# Altium integrated library Xilinx XC5200.IntLib: 211 symbols (part 2 of 19)
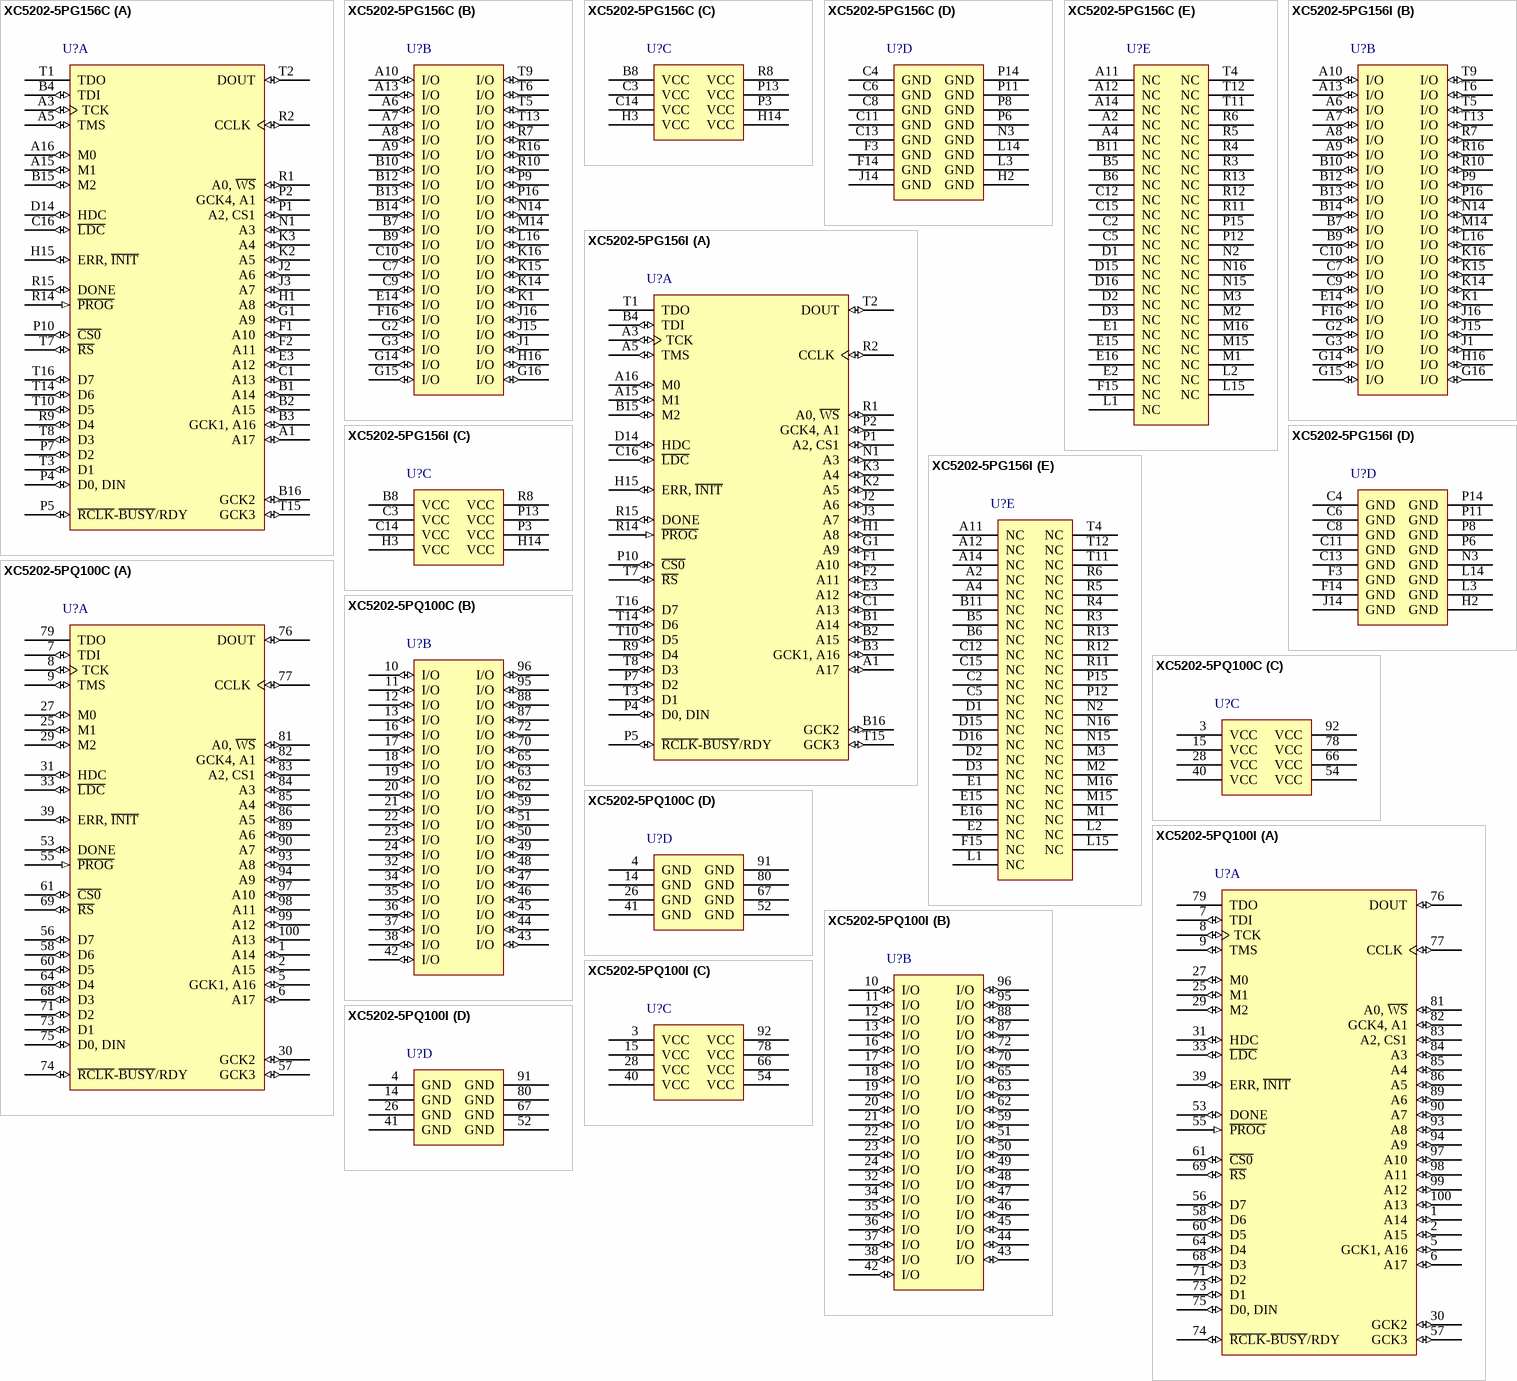
[diagram p64: symbols XC5202-5PG156C to XC5202-5PQ100I]

## XC5202-5PG156I
designator U?
XC5200 Series FPGA, 84 User I/Os, 156-Pin PGA, Industrial Grade; Published: 17-Nov-2009; DatasheetVersion: ver5.2, Nov-1998; PackageVersion: ver1.1, Apr-2001; PackageReference: PG156; Publisher: Altium Limited; PackageDescription: 156-Pin Ceramic Pin Grid Array (PG156); Code_JEDEC: MO-067-AH; ComponentLink1Description: XC5200 Datasheet; ComponentLink1URL: http://www.xilinx.com/support/documentation/data_sheets/5200.pdf; ComponentLink2Description: Pinout Specification; ComponentLink2URL: http://www.xilinx.com/support/documentation/data_sheets/5200.pdf; ComponentLink3Description: PG156 Package Drawing; ComponentLink3URL: http://www.xilinx.com/support/documentation/package_specs/pg156.pdf; ComponentLink4Description: XC5200 Documents; ComponentLink4URL: http://www.xilinx.com/support/documentation/xc5200.htm; ComponentLink5Description: Xilinx.com Home; ComponentLink5URL: http://www.xilinx.com
footprint PG156 (PGA, 156-Leads, Body 42x42mm, Pitch 2.54mm)
signal-integrity model XC5202_PG156 (XC5200)
part A pins: A1 A17 (io) "I/O (A17)", A3 TCK (io) "I/O (TCK)", A5 TMS (io) "I/O (TMS)", A15 M1 (io) "M1 (I/O)", A16 M0 (io) "M0 (I/O)", B1 A14 (io) "I/O (A14)", B2 A15 (io) "I/O (A15)", B3 GCK1, A16 (io) "GCK1 (A16, I/O)", B4 TDI (io) "I/O (TDI)", B15 M2 (io) "M2 (I/O)", B16 GCK2 (io) "GCK2 (I/O)", C1 A13 (io) "I/O (A13)", C16 ~{LDC} (io) "I/O (LDC)", D14 HDC (io) "I/O (HDC)", E3 A12 (io) "I/O (A12)", F1 A10 (io) "I/O (A10)", F2 A11 (io) "I/O (A11)", G1 A9 (io) "I/O (A9)", H1 A8 (io) "I/O (A8)", H15 ERR, ~{INIT} (io) "I/O (ERR, INIT)", J2 A6 (io) "I/O (A6)", J3 A7 (io) "I/O (A7)", K2 A5 (io) "I/O (A5)", K3 A4 (io) "I/O (A4)", N1 A3 (io) "I/O (A3)", P1 A2, CS1 (io) "I/O (A2, CS1)", P2 GCK4, A1 (io) "GCK4 (A1, I/O)", P4 D0, DIN (io) "I/O (D0, DIN)", P5 ~{RCLK}-~{BUSY}/RDY (io) "I/O (RCLK-BUSY/RDY)", P7 D2 (io) "I/O (D2)", P10 ~{CS0} (io) "I/O (CS0)", R1 A0, ~{WS} (io) "I/O (A0, WS)", R2 CCLK (io), R9 D4 (io) "I/O (D4)", R14 ~{PROG} (in), R15 DONE (io), T1 TDO (hiz) "I/O (TDO)", T2 DOUT (io) "I/O (DOUT)", T3 D1 (io) "I/O (D1)", T7 ~{RS} (io) "I/O (RS)", T8 D3 (io) "I/O (D3)", T10 D5 (io) "I/O (D5)", T14 D6 (io) "I/O (D6)", T15 GCK3 (io) "GCK3 (I/O)", T16 D7 (io) "I/O (D7)"
part B pins: A6 I/O (io), A7 I/O (io), A8 I/O (io), A9 I/O (io), A10 I/O (io), A13 I/O (io), B7 I/O (io), B9 I/O (io), B10 I/O (io), B12 I/O (io), B13 I/O (io), B14 I/O (io), C7 I/O (io), C9 I/O (io), C10 I/O (io), E14 I/O (io), F16 I/O (io), G2 I/O (io), G3 I/O (io), G14 I/O (io), G15 I/O (io), G16 I/O (io), H16 I/O (io), J1 I/O (io), J15 I/O (io), J16 I/O (io), K1 I/O (io), K14 I/O (io), K15 I/O (io), K16 I/O (io), L16 I/O (io), M14 I/O (io), N14 I/O (io), P9 I/O (io), P16 I/O (io), R7 I/O (io), R10 I/O (io), R16 I/O (io), T5 I/O (io), T6 I/O (io), T9 I/O (io), T13 I/O (io)
part C pins: B8 VCC (power), C3 VCC (power), C14 VCC (power), H3 VCC (power), H14 VCC (power), P3 VCC (power), P13 VCC (power), R8 VCC (power)
part D pins: C4 GND (power), C6 GND (power), C8 GND (power), C11 GND (power), C13 GND (power), F3 GND (power), F14 GND (power), H2 GND (power), J14 GND (power), L3 GND (power), L14 GND (power), N3 GND (power), P6 GND (power), P8 GND (power), P11 GND (power), P14 GND (power)
part E pins: A2 NC, A4 NC, A11 NC, A12 NC, A14 NC, B5 NC, B6 NC, B11 NC, C2 NC, C5 NC, C12 NC, C15 NC, D1 NC, D2 NC, D3 NC, D15 NC, D16 NC, E1 NC, E2 NC, E15 NC, E16 NC, F15 NC, L1 NC, L2 NC, L15 NC, M1 NC, M2 NC, M3 NC, M15 NC, M16 NC, N2 NC, N15 NC, N16 NC, P12 NC, P15 NC, R3 NC, R4 NC, R5 NC, R6 NC, R11 NC, R12 NC, R13 NC, T4 NC, T11 NC, T12 NC

## XC5202-5PQ100C
designator U?
XC5200 Series FPGA, 81 User I/Os, 100-Pin PQFP, Commercial Grade; Published: 17-Nov-2009; DatasheetVersion: ver5.2, Nov-1998; PackageVersion: ver1.2, Oct-2002; PackageReference: PQ100; Publisher: Altium Limited; PackageDescription: 100-Pin Plastic Quad Flat Pack (PQ100); Supplier 1: Digi-Key; Supplier Part Number 1: XC5202-5PQ100C-ND; Code_IPC: QFP65P1720X2320-100; ComponentLink1Description: XC5200 Datasheet; ComponentLink1URL: http://www.xilinx.com/support/documentation/data_sheets/5200.pdf; ComponentLink2Description: Pinout Specification; ComponentLink2URL: http://www.xilinx.com/support/documentation/data_sheets/5200.pdf; ComponentLink3Description: Discontinuation Notice; ComponentLink3URL: http://www.xilinx.com/support/documentation/customer_notices/xcn09001.pdf; ComponentLink4Description: PQ100 Package Drawing; ComponentLink4URL: http://www.xilinx.com/support/documentation/package_specs/pq100.pdf; ComponentLink5Description: XC5200 Documents; ComponentLink5URL: http://www.xilinx.com/support/documentation/xc5200.htm; ComponentLink6Description: Xilinx.com Home; ComponentLink6URL: http://www.xilinx.com
footprint PQ100_N (QFP, 100-Leads, Body 20x14mm, Pitch 0.65mm, IPC Medium Density)
footprint PQ100_L (QFP, 100-Leads, Body 20x14mm, Pitch 0.65mm, IPC High Density)
footprint PQ100_M (QFP, 100-Leads, Body 20x14mm, Pitch 0.65mm, IPC Low Density)
signal-integrity model XC5202_PQ100 (XC5200)
part A pins: 1 A14 (io) "I/O (A14)", 2 A15 (io) "I/O (A15)", 5 GCK1, A16 (io) "GCK1 (A16, I/O)", 6 A17 (io) "I/O (A17)", 7 TDI (io) "I/O (TDI)", 8 TCK (io) "I/O (TCK)", 9 TMS (io) "I/O (TMS)", 25 M1 (io) "M1 (I/O)", 27 M0 (io) "M0 (I/O)", 29 M2 (io) "M2 (I/O)", 30 GCK2 (io) "GCK2 (I/O)", 31 HDC (io) "I/O (HDC)", 33 ~{LDC} (io) "I/O (LDC)", 39 ERR, ~{INIT} (io) "I/O (ERR, INIT)", 53 DONE (io), 55 ~{PROG} (in), 56 D7 (io) "I/O (D7)", 57 GCK3 (io) "GCK3 (I/O)", 58 D6 (io) "I/O (D6)", 60 D5 (io) "I/O (D5)", 61 ~{CS0} (io) "I/O (CS0)", 64 D4 (io) "I/O (D4)", 68 D3 (io) "I/O (D3)", 69 ~{RS} (io) "I/O (RS)", 71 D2 (io) "I/O (D2)", 73 D1 (io) "I/O (D1)", 74 ~{RCLK}-~{BUSY}/RDY (io) "I/O (RCLK-BUSY/RDY)", 75 D0, DIN (io) "I/O (D0, DIN)", 76 DOUT (io) "I/O (DOUT)", 77 CCLK (io), 79 TDO (hiz) "I/O (TDO)", 81 A0, ~{WS} (io) "I/O (A0, WS)", 82 GCK4, A1 (io) "GCK4 (A1, I/O)", 83 A2, CS1 (io) "I/O (A2, CS1)", 84 A3 (io) "I/O (A3)", 85 A4 (io) "I/O (A4)", 86 A5 (io) "I/O (A5)", 89 A6 (io) "I/O (A6)", 90 A7 (io) "I/O (A7)", 93 A8 (io) "I/O (A8)", 94 A9 (io) "I/O (A9)", 97 A10 (io) "I/O (A10)", 98 A11 (io) "I/O (A11)", 99 A12 (io) "I/O (A12)", 100 A13 (io) "I/O (A13)"
part B pins: 10 I/O (io), 11 I/O (io), 12 I/O (io), 13 I/O (io), 16 I/O (io), 17 I/O (io), 18 I/O (io), 19 I/O (io), 20 I/O (io), 21 I/O (io), 22 I/O (io), 23 I/O (io), 24 I/O (io), 32 I/O (io), 34 I/O (io), 35 I/O (io), 36 I/O (io), 37 I/O (io), 38 I/O (io), 42 I/O (io), 43 I/O (io), 44 I/O (io), 45 I/O (io), 46 I/O (io), 47 I/O (io), 48 I/O (io), 49 I/O (io), 50 I/O (io), 51 I/O (io), 59 I/O (io), 62 I/O (io), 63 I/O (io), 65 I/O (io), 70 I/O (io), 72 I/O (io), 87 I/O (io), 88 I/O (io), 95 I/O (io), 96 I/O (io)
part C pins: 3 VCC (power), 15 VCC (power), 28 VCC (power), 40 VCC (power), 54 VCC (power), 66 VCC (power), 78 VCC (power), 92 VCC (power)
part D pins: 4 GND (power), 14 GND (power), 26 GND (power), 41 GND (power), 52 GND (power), 67 GND (power), 80 GND (power), 91 GND (power)

## XC5202-5PQ100I
designator U?
XC5200 Series FPGA, 81 User I/Os, 100-Pin PQFP, Industrial Grade; Published: 17-Nov-2009; DatasheetVersion: ver5.2, Nov-1998; PackageVersion: ver1.2, Oct-2002; PackageReference: PQ100; Publisher: Altium Limited; PackageDescription: 100-Pin Plastic Quad Flat Pack (PQ100); Code_IPC: QFP65P1720X2320-100; ComponentLink1Description: XC5200 Datasheet; ComponentLink1URL: http://www.xilinx.com/support/documentation/data_sheets/5200.pdf; ComponentLink2Description: Pinout Specification; ComponentLink2URL: http://www.xilinx.com/support/documentation/data_sheets/5200.pdf; ComponentLink3Description: PQ100 Package Drawing; ComponentLink3URL: http://www.xilinx.com/support/documentation/package_specs/pq100.pdf; ComponentLink4Description: XC5200 Documents; ComponentLink4URL: http://www.xilinx.com/support/documentation/xc5200.htm; ComponentLink5Description: Xilinx.com Home; ComponentLink5URL: http://www.xilinx.com
footprint PQ100_N (QFP, 100-Leads, Body 20x14mm, Pitch 0.65mm, IPC Medium Density)
footprint PQ100_L (QFP, 100-Leads, Body 20x14mm, Pitch 0.65mm, IPC High Density)
footprint PQ100_M (QFP, 100-Leads, Body 20x14mm, Pitch 0.65mm, IPC Low Density)
signal-integrity model XC5202_PQ100 (XC5200)
part A pins: 1 A14 (io) "I/O (A14)", 2 A15 (io) "I/O (A15)", 5 GCK1, A16 (io) "GCK1 (A16, I/O)", 6 A17 (io) "I/O (A17)", 7 TDI (io) "I/O (TDI)", 8 TCK (io) "I/O (TCK)", 9 TMS (io) "I/O (TMS)", 25 M1 (io) "M1 (I/O)", 27 M0 (io) "M0 (I/O)", 29 M2 (io) "M2 (I/O)", 30 GCK2 (io) "GCK2 (I/O)", 31 HDC (io) "I/O (HDC)", 33 ~{LDC} (io) "I/O (LDC)", 39 ERR, ~{INIT} (io) "I/O (ERR, INIT)", 53 DONE (io), 55 ~{PROG} (in), 56 D7 (io) "I/O (D7)", 57 GCK3 (io) "GCK3 (I/O)", 58 D6 (io) "I/O (D6)", 60 D5 (io) "I/O (D5)", 61 ~{CS0} (io) "I/O (CS0)", 64 D4 (io) "I/O (D4)", 68 D3 (io) "I/O (D3)", 69 ~{RS} (io) "I/O (RS)", 71 D2 (io) "I/O (D2)", 73 D1 (io) "I/O (D1)", 74 ~{RCLK}-~{BUSY}/RDY (io) "I/O (RCLK-BUSY/RDY)", 75 D0, DIN (io) "I/O (D0, DIN)", 76 DOUT (io) "I/O (DOUT)", 77 CCLK (io), 79 TDO (hiz) "I/O (TDO)", 81 A0, ~{WS} (io) "I/O (A0, WS)", 82 GCK4, A1 (io) "GCK4 (A1, I/O)", 83 A2, CS1 (io) "I/O (A2, CS1)", 84 A3 (io) "I/O (A3)", 85 A4 (io) "I/O (A4)", 86 A5 (io) "I/O (A5)", 89 A6 (io) "I/O (A6)", 90 A7 (io) "I/O (A7)", 93 A8 (io) "I/O (A8)", 94 A9 (io) "I/O (A9)", 97 A10 (io) "I/O (A10)", 98 A11 (io) "I/O (A11)", 99 A12 (io) "I/O (A12)", 100 A13 (io) "I/O (A13)"
part B pins: 10 I/O (io), 11 I/O (io), 12 I/O (io), 13 I/O (io), 16 I/O (io), 17 I/O (io), 18 I/O (io), 19 I/O (io), 20 I/O (io), 21 I/O (io), 22 I/O (io), 23 I/O (io), 24 I/O (io), 32 I/O (io), 34 I/O (io), 35 I/O (io), 36 I/O (io), 37 I/O (io), 38 I/O (io), 42 I/O (io), 43 I/O (io), 44 I/O (io), 45 I/O (io), 46 I/O (io), 47 I/O (io), 48 I/O (io), 49 I/O (io), 50 I/O (io), 51 I/O (io), 59 I/O (io), 62 I/O (io), 63 I/O (io), 65 I/O (io), 70 I/O (io), 72 I/O (io), 87 I/O (io), 88 I/O (io), 95 I/O (io), 96 I/O (io)
part C pins: 3 VCC (power), 15 VCC (power), 28 VCC (power), 40 VCC (power), 54 VCC (power), 66 VCC (power), 78 VCC (power), 92 VCC (power)
part D pins: 4 GND (power), 14 GND (power), 26 GND (power), 41 GND (power), 52 GND (power), 67 GND (power), 80 GND (power), 91 GND (power)

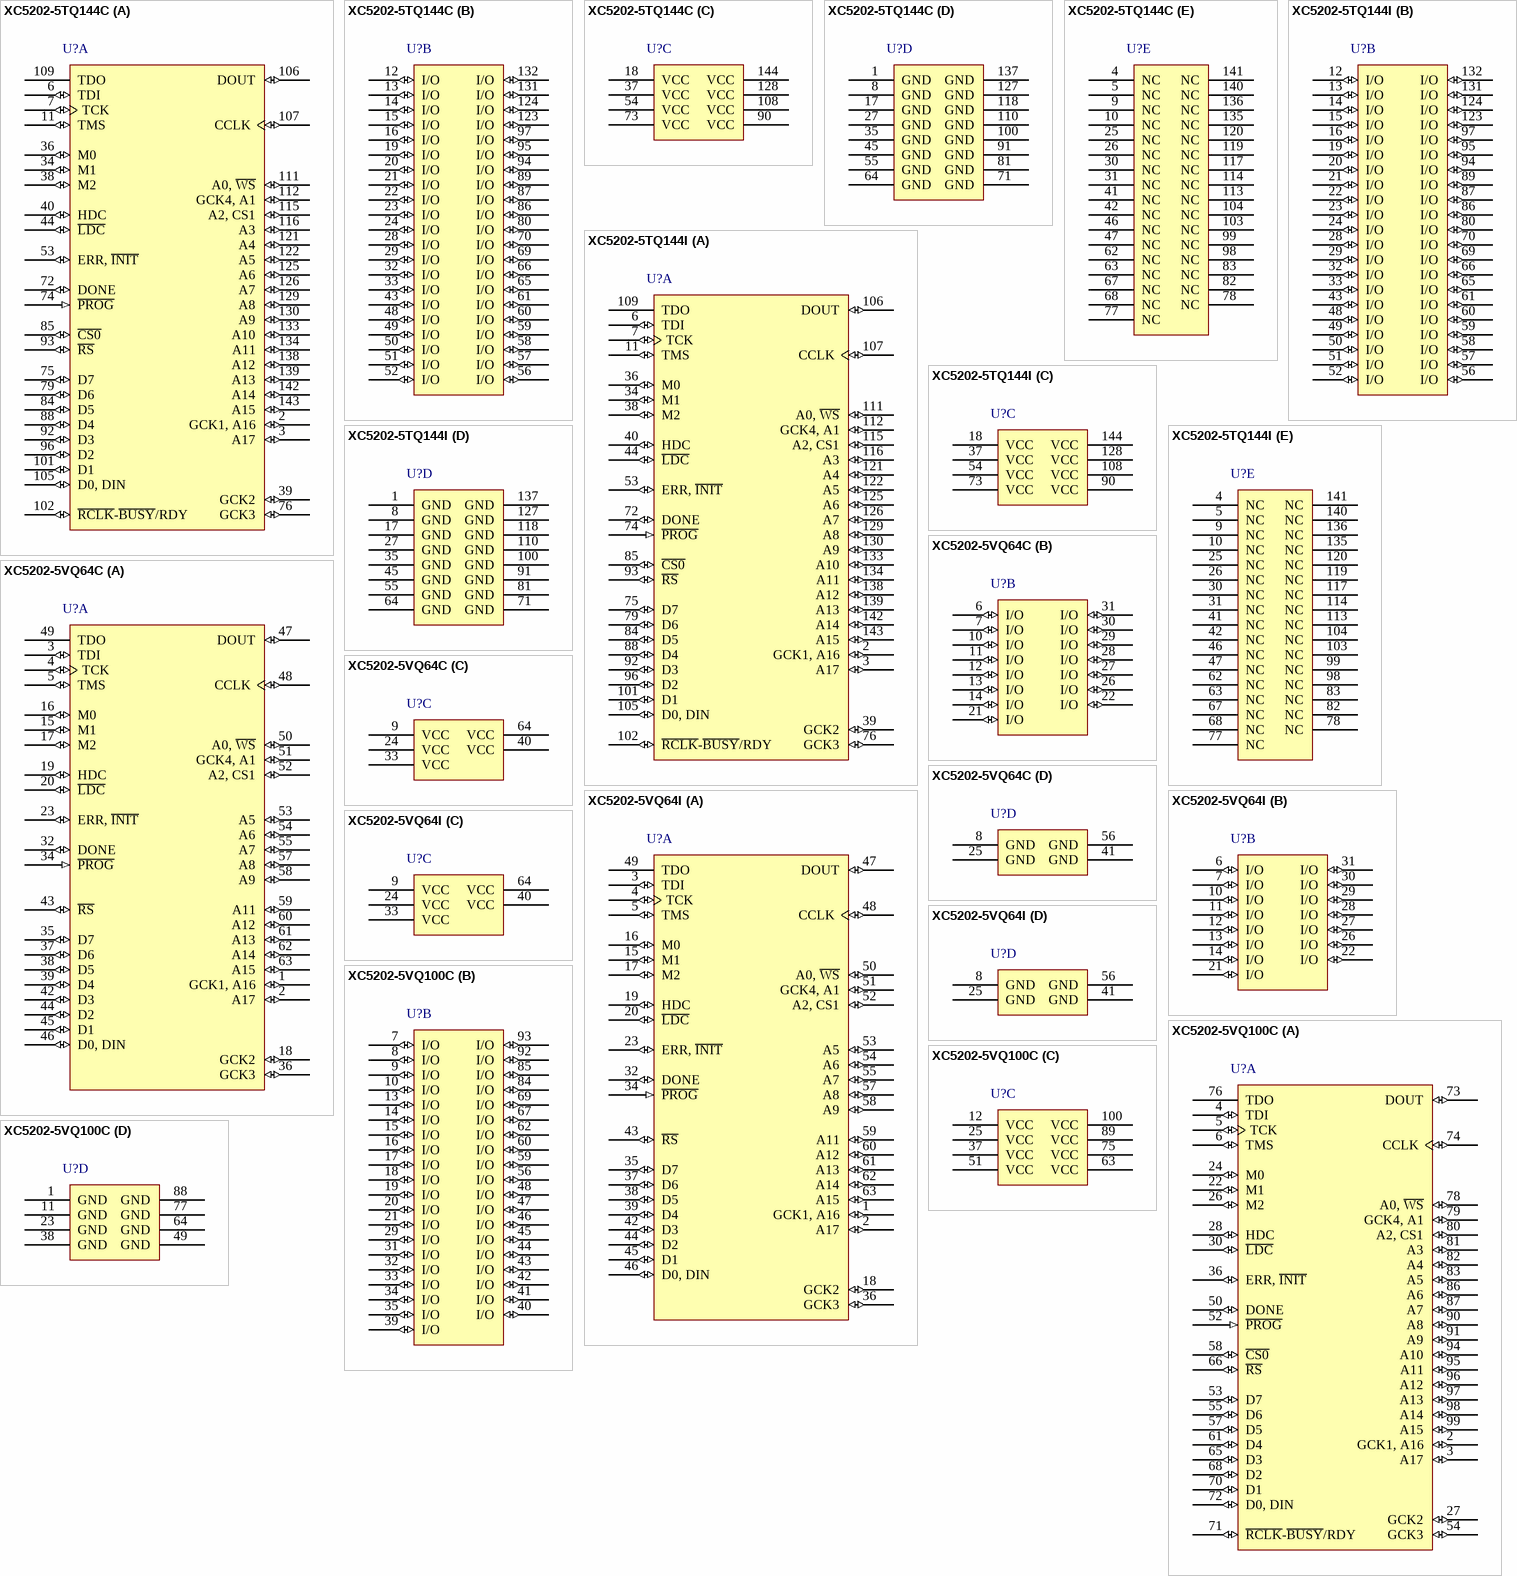
[diagram p4: symbols XC5202-5TQ144C to XC5202-5VQ100C]

## XC5202-5TQ144C
designator U?
XC5200 Series FPGA, 84 User I/Os, 144-Pin TQFP, Commercial Grade; Published: 17-Nov-2009; DatasheetVersion: ver5.2, Nov-1998; PackageVersion: ver1.2, Jun-2004; PackageReference: TQ144; Publisher: Altium Limited; PackageDescription: 144-Pin Thin Quad Flat Pack (TQ144); Code_JEDEC: MS-026-BFB; ComponentLink1Description: XC5200 Datasheet; ComponentLink1URL: http://www.xilinx.com/support/documentation/data_sheets/5200.pdf; ComponentLink2Description: Pinout Specification; ComponentLink2URL: http://www.xilinx.com/support/documentation/data_sheets/5200.pdf; ComponentLink3Description: TQ144 Package Drawing; ComponentLink3URL: http://www.xilinx.com/support/documentation/package_specs/tq144.pdf; ComponentLink4Description: XC5200 Documents; ComponentLink4URL: http://www.xilinx.com/support/documentation/xc5200.htm; ComponentLink5Description: Xilinx.com Home; ComponentLink5URL: http://www.xilinx.com
footprint TQ144_N (Thin QFP, 144-Leads, Body 20x20mm, Pitch 0.5mm, IPC Medium Density)
footprint TQ144_L (Thin QFP, 144-Leads, Body 20x20mm, Pitch 0.5mm, IPC High Density)
footprint TQ144_M (Thin QFP, 144-Leads, Body 20x20mm, Pitch 0.5mm, IPC Low Density)
signal-integrity model XC5202_TQ144 (XC5200)
part A pins: 2 GCK1, A16 (io) "GCK1 (A16, I/O)", 3 A17 (io) "I/O (A17)", 6 TDI (io) "I/O (TDI)", 7 TCK (io) "I/O (TCK)", 11 TMS (io) "I/O (TMS)", 34 M1 (io) "M1 (I/O)", 36 M0 (io) "M0 (I/O)", 38 M2 (io) "M2 (I/O)", 39 GCK2 (io) "GCK2 (I/O)", 40 HDC (io) "I/O (HDC)", 44 ~{LDC} (io) "I/O (LDC)", 53 ERR, ~{INIT} (io) "I/O (ERR, INIT)", 72 DONE (io), 74 ~{PROG} (in), 75 D7 (io) "I/O (D7)", 76 GCK3 (io) "GCK3 (I/O)", 79 D6 (io) "I/O (D6)", 84 D5 (io) "I/O (D5)", 85 ~{CS0} (io) "I/O (CS0)", 88 D4 (io) "I/O (D4)", 92 D3 (io) "I/O (D3)", 93 ~{RS} (io) "I/O (RS)", 96 D2 (io) "I/O (D2)", 101 D1 (io) "I/O (D1)", 102 ~{RCLK}-~{BUSY}/RDY (io) "I/O (RCLK-BUSY/RDY)", 105 D0, DIN (io) "I/O (D0, DIN)", 106 DOUT (io) "I/O (DOUT)", 107 CCLK (io), 109 TDO (hiz) "I/O (TDO)", 111 A0, ~{WS} (io) "I/O (A0, WS)", 112 GCK4, A1 (io) "GCK4 (A1, I/O)", 115 A2, CS1 (io) "I/O (A2, CS1)", 116 A3 (io) "I/O (A3)", 121 A4 (io) "I/O (A4)", 122 A5 (io) "I/O (A5)", 125 A6 (io) "I/O (A6)", 126 A7 (io) "I/O (A7)", 129 A8 (io) "I/O (A8)", 130 A9 (io) "I/O (A9)", 133 A10 (io) "I/O (A10)", 134 A11 (io) "I/O (A11)", 138 A12 (io) "I/O (A12)", 139 A13 (io) "I/O (A13)", 142 A14 (io) "I/O (A14)", 143 A15 (io) "I/O (A15)"
part B pins: 12 I/O (io), 13 I/O (io), 14 I/O (io), 15 I/O (io), 16 I/O (io), 19 I/O (io), 20 I/O (io), 21 I/O (io), 22 I/O (io), 23 I/O (io), 24 I/O (io), 28 I/O (io), 29 I/O (io), 32 I/O (io), 33 I/O (io), 43 I/O (io), 48 I/O (io), 49 I/O (io), 50 I/O (io), 51 I/O (io), 52 I/O (io), 56 I/O (io), 57 I/O (io), 58 I/O (io), 59 I/O (io), 60 I/O (io), 61 I/O (io), 65 I/O (io), 66 I/O (io), 69 I/O (io), 70 I/O (io), 80 I/O (io), 86 I/O (io), 87 I/O (io), 89 I/O (io), 94 I/O (io), 95 I/O (io), 97 I/O (io), 123 I/O (io), 124 I/O (io), 131 I/O (io), 132 I/O (io)
part C pins: 18 VCC (power), 37 VCC (power), 54 VCC (power), 73 VCC (power), 90 VCC (power), 108 VCC (power), 128 VCC (power), 144 VCC (power)
part D pins: 1 GND (power), 8 GND (power), 17 GND (power), 27 GND (power), 35 GND (power), 45 GND (power), 55 GND (power), 64 GND (power), 71 GND (power), 81 GND (power), 91 GND (power), 100 GND (power), 110 GND (power), 118 GND (power), 127 GND (power), 137 GND (power)
part E pins: 4 NC, 5 NC, 9 NC, 10 NC, 25 NC, 26 NC, 30 NC, 31 NC, 41 NC, 42 NC, 46 NC, 47 NC, 62 NC, 63 NC, 67 NC, 68 NC, 77 NC, 78 NC, 82 NC, 83 NC, 98 NC, 99 NC, 103 NC, 104 NC, 113 NC, 114 NC, 117 NC, 119 NC, 120 NC, 135 NC, 136 NC, 140 NC, 141 NC

## XC5202-5TQ144I
designator U?
XC5200 Series FPGA, 84 User I/Os, 144-Pin TQFP, Industrial Grade; Published: 17-Nov-2009; DatasheetVersion: ver5.2, Nov-1998; PackageVersion: ver1.2, Jun-2004; PackageReference: TQ144; Publisher: Altium Limited; PackageDescription: 144-Pin Thin Quad Flat Pack (TQ144); Code_JEDEC: MS-026-BFB; ComponentLink1Description: XC5200 Datasheet; ComponentLink1URL: http://www.xilinx.com/support/documentation/data_sheets/5200.pdf; ComponentLink2Description: Pinout Specification; ComponentLink2URL: http://www.xilinx.com/support/documentation/data_sheets/5200.pdf; ComponentLink3Description: TQ144 Package Drawing; ComponentLink3URL: http://www.xilinx.com/support/documentation/package_specs/tq144.pdf; ComponentLink4Description: XC5200 Documents; ComponentLink4URL: http://www.xilinx.com/support/documentation/xc5200.htm; ComponentLink5Description: Xilinx.com Home; ComponentLink5URL: http://www.xilinx.com
footprint TQ144_N (Thin QFP, 144-Leads, Body 20x20mm, Pitch 0.5mm, IPC Medium Density)
footprint TQ144_L (Thin QFP, 144-Leads, Body 20x20mm, Pitch 0.5mm, IPC High Density)
footprint TQ144_M (Thin QFP, 144-Leads, Body 20x20mm, Pitch 0.5mm, IPC Low Density)
signal-integrity model XC5202_TQ144 (XC5200)
part A pins: 2 GCK1, A16 (io) "GCK1 (A16, I/O)", 3 A17 (io) "I/O (A17)", 6 TDI (io) "I/O (TDI)", 7 TCK (io) "I/O (TCK)", 11 TMS (io) "I/O (TMS)", 34 M1 (io) "M1 (I/O)", 36 M0 (io) "M0 (I/O)", 38 M2 (io) "M2 (I/O)", 39 GCK2 (io) "GCK2 (I/O)", 40 HDC (io) "I/O (HDC)", 44 ~{LDC} (io) "I/O (LDC)", 53 ERR, ~{INIT} (io) "I/O (ERR, INIT)", 72 DONE (io), 74 ~{PROG} (in), 75 D7 (io) "I/O (D7)", 76 GCK3 (io) "GCK3 (I/O)", 79 D6 (io) "I/O (D6)", 84 D5 (io) "I/O (D5)", 85 ~{CS0} (io) "I/O (CS0)", 88 D4 (io) "I/O (D4)", 92 D3 (io) "I/O (D3)", 93 ~{RS} (io) "I/O (RS)", 96 D2 (io) "I/O (D2)", 101 D1 (io) "I/O (D1)", 102 ~{RCLK}-~{BUSY}/RDY (io) "I/O (RCLK-BUSY/RDY)", 105 D0, DIN (io) "I/O (D0, DIN)", 106 DOUT (io) "I/O (DOUT)", 107 CCLK (io), 109 TDO (hiz) "I/O (TDO)", 111 A0, ~{WS} (io) "I/O (A0, WS)", 112 GCK4, A1 (io) "GCK4 (A1, I/O)", 115 A2, CS1 (io) "I/O (A2, CS1)", 116 A3 (io) "I/O (A3)", 121 A4 (io) "I/O (A4)", 122 A5 (io) "I/O (A5)", 125 A6 (io) "I/O (A6)", 126 A7 (io) "I/O (A7)", 129 A8 (io) "I/O (A8)", 130 A9 (io) "I/O (A9)", 133 A10 (io) "I/O (A10)", 134 A11 (io) "I/O (A11)", 138 A12 (io) "I/O (A12)", 139 A13 (io) "I/O (A13)", 142 A14 (io) "I/O (A14)", 143 A15 (io) "I/O (A15)"
part B pins: 12 I/O (io), 13 I/O (io), 14 I/O (io), 15 I/O (io), 16 I/O (io), 19 I/O (io), 20 I/O (io), 21 I/O (io), 22 I/O (io), 23 I/O (io), 24 I/O (io), 28 I/O (io), 29 I/O (io), 32 I/O (io), 33 I/O (io), 43 I/O (io), 48 I/O (io), 49 I/O (io), 50 I/O (io), 51 I/O (io), 52 I/O (io), 56 I/O (io), 57 I/O (io), 58 I/O (io), 59 I/O (io), 60 I/O (io), 61 I/O (io), 65 I/O (io), 66 I/O (io), 69 I/O (io), 70 I/O (io), 80 I/O (io), 86 I/O (io), 87 I/O (io), 89 I/O (io), 94 I/O (io), 95 I/O (io), 97 I/O (io), 123 I/O (io), 124 I/O (io), 131 I/O (io), 132 I/O (io)
part C pins: 18 VCC (power), 37 VCC (power), 54 VCC (power), 73 VCC (power), 90 VCC (power), 108 VCC (power), 128 VCC (power), 144 VCC (power)
part D pins: 1 GND (power), 8 GND (power), 17 GND (power), 27 GND (power), 35 GND (power), 45 GND (power), 55 GND (power), 64 GND (power), 71 GND (power), 81 GND (power), 91 GND (power), 100 GND (power), 110 GND (power), 118 GND (power), 127 GND (power), 137 GND (power)
part E pins: 4 NC, 5 NC, 9 NC, 10 NC, 25 NC, 26 NC, 30 NC, 31 NC, 41 NC, 42 NC, 46 NC, 47 NC, 62 NC, 63 NC, 67 NC, 68 NC, 77 NC, 78 NC, 82 NC, 83 NC, 98 NC, 99 NC, 103 NC, 104 NC, 113 NC, 114 NC, 117 NC, 119 NC, 120 NC, 135 NC, 136 NC, 140 NC, 141 NC

## XC5202-5VQ64C
designator U?
XC5200 Series FPGA, 52 User I/Os, 64-Pin VQFP, Commercial Grade; Published: 17-Nov-2009; DatasheetVersion: ver5.2, Nov-1998; PackageVersion: ver1.2, Jun-2004; PackageReference: VQ64; Publisher: Altium Limited; PackageDescription: 64-Pin Very Thin Quad Flat Pack (VQ64); Code_JEDEC: MS-026-ACD; ComponentLink1Description: XC5200 Datasheet; ComponentLink1URL: http://www.xilinx.com/support/documentation/data_sheets/5200.pdf; ComponentLink2Description: Pinout Specification; ComponentLink2URL: http://www.xilinx.com/support/documentation/data_sheets/5200.pdf; ComponentLink3Description: VQ64 Package Drawing; ComponentLink3URL: http://www.xilinx.com/support/documentation/package_specs/vq64.pdf; ComponentLink4Description: XC5200 Documents; ComponentLink4URL: http://www.xilinx.com/support/documentation/xc5200.htm; ComponentLink5Description: Xilinx.com Home; ComponentLink5URL: http://www.xilinx.com
footprint VQ64_N (Thin QFP, 64-Leads, Body 10x10mm, Pitch 0.5mm, IPC Medium Density)
footprint VQ64_L (Thin QFP, 64-Leads, Body 10x10mm, Pitch 0.5mm, IPC High Density)
footprint VQ64_M (Thin QFP, 64-Leads, Body 10x10mm, Pitch 0.5mm, IPC Low Density)
signal-integrity model XC5202_VQ64 (XC5200)
part A pins: 1 GCK1, A16 (io) "GCK1 (A16, I/O)", 2 A17 (io) "I/O (A17)", 3 TDI (io) "I/O (TDI)", 4 TCK (io) "I/O (TCK)", 5 TMS (io) "I/O (TMS)", 15 M1 (io) "M1 (I/O)", 16 M0 (io) "M0 (I/O)", 17 M2 (io) "M2 (I/O)", 18 GCK2 (io) "GCK2 (I/O)", 19 HDC (io) "I/O (HDC)", 20 ~{LDC} (io) "I/O (LDC)", 23 ERR, ~{INIT} (io) "I/O (ERR, INIT)", 32 DONE (io), 34 ~{PROG} (in), 35 D7 (io) "I/O (D7)", 36 GCK3 (io) "GCK3 (I/O)", 37 D6 (io) "I/O (D6)", 38 D5 (io) "I/O (D5)", 39 D4 (io) "I/O (D4)", 42 D3 (io) "I/O (D3)", 43 ~{RS} (io) "I/O (RS)", 44 D2 (io) "I/O (D2)", 45 D1 (io) "I/O (D1)", 46 D0, DIN (io) "I/O (D0, DIN)", 47 DOUT (io) "I/O (DOUT)", 48 CCLK (io), 49 TDO (hiz) "I/O (TDO)", 50 A0, ~{WS} (io) "I/O (A0, WS)", 51 GCK4, A1 (io) "GCK4 (A1, I/O)", 52 A2, CS1 (io) "I/O (A2, CS1)", 53 A5 (io) "I/O (A5)", 54 A6 (io) "I/O (A6)", 55 A7 (io) "I/O (A7)", 57 A8 (io) "I/O (A8)", 58 A9 (io) "I/O (A9)", 59 A11 (io) "I/O (A11)", 60 A12 (io) "I/O (A12)", 61 A13 (io) "I/O (A13)", 62 A14 (io) "I/O (A14)", 63 A15 (io) "I/O (A15)"
part B pins: 6 I/O (io), 7 I/O (io), 10 I/O (io), 11 I/O (io), 12 I/O (io), 13 I/O (io), 14 I/O (io), 21 I/O (io), 22 I/O (io), 26 I/O (io), 27 I/O (io), 28 I/O (io), 29 I/O (io), 30 I/O (io), 31 I/O (io)
part C pins: 9 VCC (power), 24 VCC (power), 33 VCC (power), 40 VCC (power), 64 VCC (power)
part D pins: 8 GND (power), 25 GND (power), 41 GND (power), 56 GND (power)

## XC5202-5VQ64I
designator U?
XC5200 Series FPGA, 52 User I/Os, 64-Pin VQFP, Industrial Grade; Published: 17-Nov-2009; DatasheetVersion: ver5.2, Nov-1998; PackageVersion: ver1.2, Jun-2004; PackageReference: VQ64; Publisher: Altium Limited; PackageDescription: 64-Pin Very Thin Quad Flat Pack (VQ64); Code_JEDEC: MS-026-ACD; ComponentLink1Description: XC5200 Datasheet; ComponentLink1URL: http://www.xilinx.com/support/documentation/data_sheets/5200.pdf; ComponentLink2Description: Pinout Specification; ComponentLink2URL: http://www.xilinx.com/support/documentation/data_sheets/5200.pdf; ComponentLink3Description: VQ64 Package Drawing; ComponentLink3URL: http://www.xilinx.com/support/documentation/package_specs/vq64.pdf; ComponentLink4Description: XC5200 Documents; ComponentLink4URL: http://www.xilinx.com/support/documentation/xc5200.htm; ComponentLink5Description: Xilinx.com Home; ComponentLink5URL: http://www.xilinx.com
footprint VQ64_N (Thin QFP, 64-Leads, Body 10x10mm, Pitch 0.5mm, IPC Medium Density)
footprint VQ64_L (Thin QFP, 64-Leads, Body 10x10mm, Pitch 0.5mm, IPC High Density)
footprint VQ64_M (Thin QFP, 64-Leads, Body 10x10mm, Pitch 0.5mm, IPC Low Density)
signal-integrity model XC5202_VQ64 (XC5200)
part A pins: 1 GCK1, A16 (io) "GCK1 (A16, I/O)", 2 A17 (io) "I/O (A17)", 3 TDI (io) "I/O (TDI)", 4 TCK (io) "I/O (TCK)", 5 TMS (io) "I/O (TMS)", 15 M1 (io) "M1 (I/O)", 16 M0 (io) "M0 (I/O)", 17 M2 (io) "M2 (I/O)", 18 GCK2 (io) "GCK2 (I/O)", 19 HDC (io) "I/O (HDC)", 20 ~{LDC} (io) "I/O (LDC)", 23 ERR, ~{INIT} (io) "I/O (ERR, INIT)", 32 DONE (io), 34 ~{PROG} (in), 35 D7 (io) "I/O (D7)", 36 GCK3 (io) "GCK3 (I/O)", 37 D6 (io) "I/O (D6)", 38 D5 (io) "I/O (D5)", 39 D4 (io) "I/O (D4)", 42 D3 (io) "I/O (D3)", 43 ~{RS} (io) "I/O (RS)", 44 D2 (io) "I/O (D2)", 45 D1 (io) "I/O (D1)", 46 D0, DIN (io) "I/O (D0, DIN)", 47 DOUT (io) "I/O (DOUT)", 48 CCLK (io), 49 TDO (hiz) "I/O (TDO)", 50 A0, ~{WS} (io) "I/O (A0, WS)", 51 GCK4, A1 (io) "GCK4 (A1, I/O)", 52 A2, CS1 (io) "I/O (A2, CS1)", 53 A5 (io) "I/O (A5)", 54 A6 (io) "I/O (A6)", 55 A7 (io) "I/O (A7)", 57 A8 (io) "I/O (A8)", 58 A9 (io) "I/O (A9)", 59 A11 (io) "I/O (A11)", 60 A12 (io) "I/O (A12)", 61 A13 (io) "I/O (A13)", 62 A14 (io) "I/O (A14)", 63 A15 (io) "I/O (A15)"
part B pins: 6 I/O (io), 7 I/O (io), 10 I/O (io), 11 I/O (io), 12 I/O (io), 13 I/O (io), 14 I/O (io), 21 I/O (io), 22 I/O (io), 26 I/O (io), 27 I/O (io), 28 I/O (io), 29 I/O (io), 30 I/O (io), 31 I/O (io)
part C pins: 9 VCC (power), 24 VCC (power), 33 VCC (power), 40 VCC (power), 64 VCC (power)
part D pins: 8 GND (power), 25 GND (power), 41 GND (power), 56 GND (power)

## XC5202-5VQ100C
designator U?
XC5200 Series FPGA, 81 User I/Os, 100-Pin VQFP, Commercial Grade; Published: 17-Nov-2009; DatasheetVersion: ver5.2, Nov-1998; PackageVersion: ver1.2.1, Feb-2007; PackageReference: VQ100; Publisher: Altium Limited; PackageDescription: 100-Pin Very Thin Quad Flat Pack (VQ100); Code_JEDEC: MS-026-AED; ComponentLink1Description: XC5200 Datasheet; ComponentLink1URL: http://www.xilinx.com/support/documentation/data_sheets/5200.pdf; ComponentLink2Description: Pinout Specification; ComponentLink2URL: http://www.xilinx.com/support/documentation/data_sheets/5200.pdf; ComponentLink3Description: Discontinuation Notice; ComponentLink3URL: http://www.xilinx.com/support/documentation/customer_notices/xcn09001.pdf; ComponentLink4Description: VQ100 Package Drawing; ComponentLink4URL: http://www.xilinx.com/support/documentation/package_specs/vq100.pdf; ComponentLink5Description: XC5200 Documents; ComponentLink5URL: http://www.xilinx.com/support/documentation/xc5200.htm; ComponentLink6Description: Xilinx.com Home; ComponentLink6URL: http://www.xilinx.com
footprint VQ100_N (Thin QFP, 100-Leads, Body 14x14mm, Pitch 0.5mm, IPC Medium Density)
footprint VQ100_L (Thin QFP, 100-Leads, Body 14x14mm, Pitch 0.5mm, IPC High Density)
footprint VQ100_M (Thin QFP, 100-Leads, Body 14x14mm, Pitch 0.5mm, IPC Low Density)
signal-integrity model XC5202_VQ100 (XC5200)
part A pins: 2 GCK1, A16 (io) "GCK1 (A16, I/O)", 3 A17 (io) "I/O (A17)", 4 TDI (io) "I/O (TDI)", 5 TCK (io) "I/O (TCK)", 6 TMS (io) "I/O (TMS)", 22 M1 (io) "M1 (I/O)", 24 M0 (io) "M0 (I/O)", 26 M2 (io) "M2 (I/O)", 27 GCK2 (io) "GCK2 (I/O)", 28 HDC (io) "I/O (HDC)", 30 ~{LDC} (io) "I/O (LDC)", 36 ERR, ~{INIT} (io) "I/O (ERR, INIT)", 50 DONE (io), 52 ~{PROG} (in), 53 D7 (io) "I/O (D7)", 54 GCK3 (io) "GCK3 (I/O)", 55 D6 (io) "I/O (D6)", 57 D5 (io) "I/O (D5)", 58 ~{CS0} (io) "I/O (CS0)", 61 D4 (io) "I/O (D4)", 65 D3 (io) "I/O (D3)", 66 ~{RS} (io) "I/O (RS)", 68 D2 (io) "I/O (D2)", 70 D1 (io) "I/O (D1)", 71 ~{RCLK}-~{BUSY}/RDY (io) "I/O (RCLK-BUSY/RDY)", 72 D0, DIN (io) "I/O (D0, DIN)", 73 DOUT (io) "I/O (DOUT)", 74 CCLK (io), 76 TDO (hiz) "I/O (TDO)", 78 A0, ~{WS} (io) "I/O (A0, WS)", 79 GCK4, A1 (io) "GCK4 (A1, I/O)", 80 A2, CS1 (io) "I/O (A2, CS1)", 81 A3 (io) "I/O (A3)", 82 A4 (io) "I/O (A4)", 83 A5 (io) "I/O (A5)", 86 A6 (io) "I/O (A6)", 87 A7 (io) "I/O (A7)", 90 A8 (io) "I/O (A8)", 91 A9 (io) "I/O (A9)", 94 A10 (io) "I/O (A10)", 95 A11 (io) "I/O (A11)", 96 A12 (io) "I/O (A12)", 97 A13 (io) "I/O (A13)", 98 A14 (io) "I/O (A14)", 99 A15 (io) "I/O (A15)"
part B pins: 7 I/O (io), 8 I/O (io), 9 I/O (io), 10 I/O (io), 13 I/O (io), 14 I/O (io), 15 I/O (io), 16 I/O (io), 17 I/O (io), 18 I/O (io), 19 I/O (io), 20 I/O (io), 21 I/O (io), 29 I/O (io), 31 I/O (io), 32 I/O (io), 33 I/O (io), 34 I/O (io), 35 I/O (io), 39 I/O (io), 40 I/O (io), 41 I/O (io), 42 I/O (io), 43 I/O (io), 44 I/O (io), 45 I/O (io), 46 I/O (io), 47 I/O (io), 48 I/O (io), 56 I/O (io), 59 I/O (io), 60 I/O (io), 62 I/O (io), 67 I/O (io), 69 I/O (io), 84 I/O (io), 85 I/O (io), 92 I/O (io), 93 I/O (io)
part C pins: 12 VCC (power), 25 VCC (power), 37 VCC (power), 51 VCC (power), 63 VCC (power), 75 VCC (power), 89 VCC (power), 100 VCC (power)
part D pins: 1 GND (power), 11 GND (power), 23 GND (power), 38 GND (power), 49 GND (power), 64 GND (power), 77 GND (power), 88 GND (power)

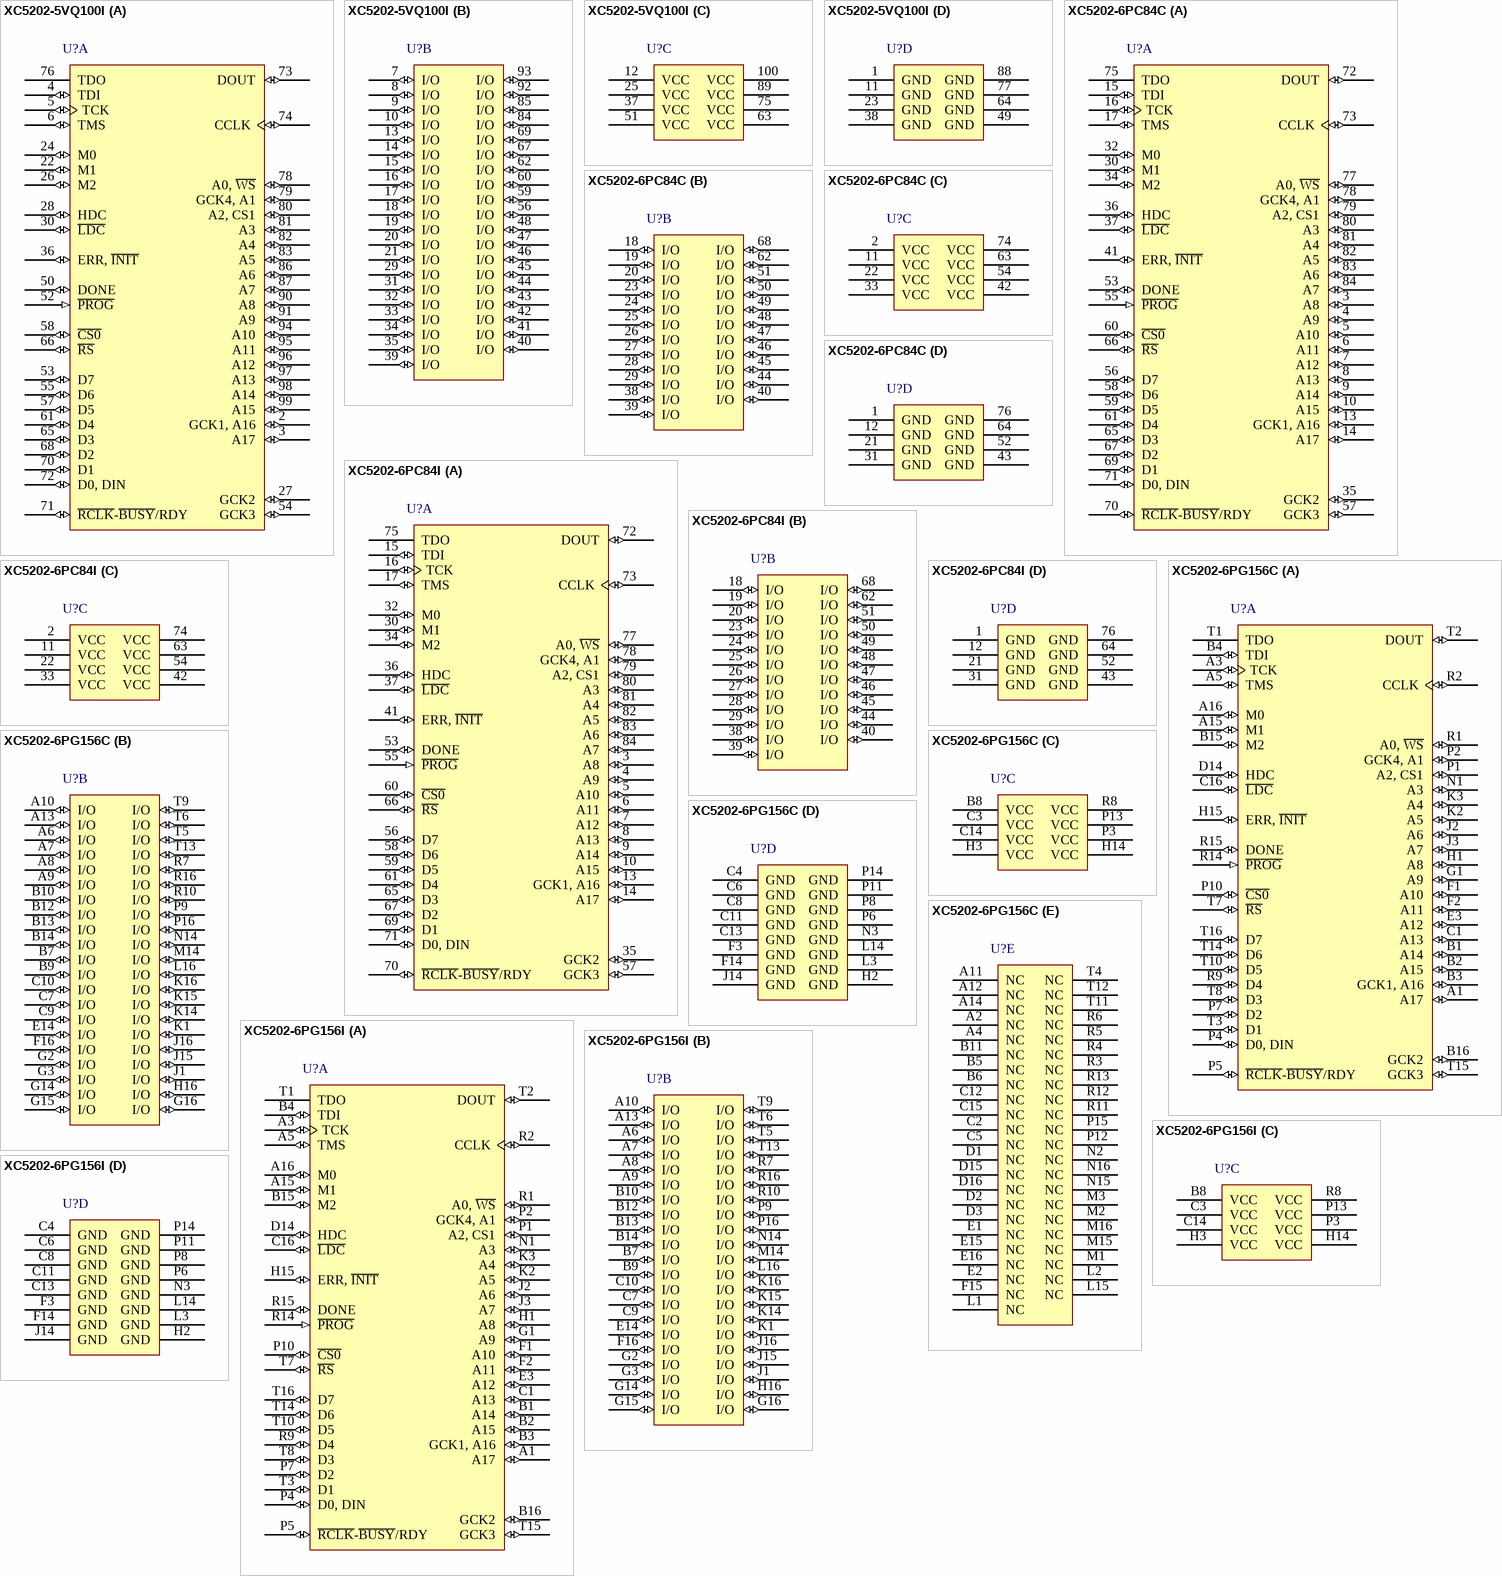
[diagram p5: symbols XC5202-5VQ100I to XC5202-6PG156I]

## XC5202-5VQ100I
designator U?
XC5200 Series FPGA, 81 User I/Os, 100-Pin VQFP, Industrial Grade; Published: 17-Nov-2009; DatasheetVersion: ver5.2, Nov-1998; PackageVersion: ver1.2.1, Feb-2007; PackageReference: VQ100; Publisher: Altium Limited; PackageDescription: 100-Pin Very Thin Quad Flat Pack (VQ100); Code_JEDEC: MS-026-AED; ComponentLink1Description: XC5200 Datasheet; ComponentLink1URL: http://www.xilinx.com/support/documentation/data_sheets/5200.pdf; ComponentLink2Description: Pinout Specification; ComponentLink2URL: http://www.xilinx.com/support/documentation/data_sheets/5200.pdf; ComponentLink3Description: VQ100 Package Drawing; ComponentLink3URL: http://www.xilinx.com/support/documentation/package_specs/vq100.pdf; ComponentLink4Description: XC5200 Documents; ComponentLink4URL: http://www.xilinx.com/support/documentation/xc5200.htm; ComponentLink5Description: Xilinx.com Home; ComponentLink5URL: http://www.xilinx.com
footprint VQ100_N (Thin QFP, 100-Leads, Body 14x14mm, Pitch 0.5mm, IPC Medium Density)
footprint VQ100_L (Thin QFP, 100-Leads, Body 14x14mm, Pitch 0.5mm, IPC High Density)
footprint VQ100_M (Thin QFP, 100-Leads, Body 14x14mm, Pitch 0.5mm, IPC Low Density)
signal-integrity model XC5202_VQ100 (XC5200)
part A pins: 2 GCK1, A16 (io) "GCK1 (A16, I/O)", 3 A17 (io) "I/O (A17)", 4 TDI (io) "I/O (TDI)", 5 TCK (io) "I/O (TCK)", 6 TMS (io) "I/O (TMS)", 22 M1 (io) "M1 (I/O)", 24 M0 (io) "M0 (I/O)", 26 M2 (io) "M2 (I/O)", 27 GCK2 (io) "GCK2 (I/O)", 28 HDC (io) "I/O (HDC)", 30 ~{LDC} (io) "I/O (LDC)", 36 ERR, ~{INIT} (io) "I/O (ERR, INIT)", 50 DONE (io), 52 ~{PROG} (in), 53 D7 (io) "I/O (D7)", 54 GCK3 (io) "GCK3 (I/O)", 55 D6 (io) "I/O (D6)", 57 D5 (io) "I/O (D5)", 58 ~{CS0} (io) "I/O (CS0)", 61 D4 (io) "I/O (D4)", 65 D3 (io) "I/O (D3)", 66 ~{RS} (io) "I/O (RS)", 68 D2 (io) "I/O (D2)", 70 D1 (io) "I/O (D1)", 71 ~{RCLK}-~{BUSY}/RDY (io) "I/O (RCLK-BUSY/RDY)", 72 D0, DIN (io) "I/O (D0, DIN)", 73 DOUT (io) "I/O (DOUT)", 74 CCLK (io), 76 TDO (hiz) "I/O (TDO)", 78 A0, ~{WS} (io) "I/O (A0, WS)", 79 GCK4, A1 (io) "GCK4 (A1, I/O)", 80 A2, CS1 (io) "I/O (A2, CS1)", 81 A3 (io) "I/O (A3)", 82 A4 (io) "I/O (A4)", 83 A5 (io) "I/O (A5)", 86 A6 (io) "I/O (A6)", 87 A7 (io) "I/O (A7)", 90 A8 (io) "I/O (A8)", 91 A9 (io) "I/O (A9)", 94 A10 (io) "I/O (A10)", 95 A11 (io) "I/O (A11)", 96 A12 (io) "I/O (A12)", 97 A13 (io) "I/O (A13)", 98 A14 (io) "I/O (A14)", 99 A15 (io) "I/O (A15)"
part B pins: 7 I/O (io), 8 I/O (io), 9 I/O (io), 10 I/O (io), 13 I/O (io), 14 I/O (io), 15 I/O (io), 16 I/O (io), 17 I/O (io), 18 I/O (io), 19 I/O (io), 20 I/O (io), 21 I/O (io), 29 I/O (io), 31 I/O (io), 32 I/O (io), 33 I/O (io), 34 I/O (io), 35 I/O (io), 39 I/O (io), 40 I/O (io), 41 I/O (io), 42 I/O (io), 43 I/O (io), 44 I/O (io), 45 I/O (io), 46 I/O (io), 47 I/O (io), 48 I/O (io), 56 I/O (io), 59 I/O (io), 60 I/O (io), 62 I/O (io), 67 I/O (io), 69 I/O (io), 84 I/O (io), 85 I/O (io), 92 I/O (io), 93 I/O (io)
part C pins: 12 VCC (power), 25 VCC (power), 37 VCC (power), 51 VCC (power), 63 VCC (power), 75 VCC (power), 89 VCC (power), 100 VCC (power)
part D pins: 1 GND (power), 11 GND (power), 23 GND (power), 38 GND (power), 49 GND (power), 64 GND (power), 77 GND (power), 88 GND (power)

## XC5202-6PC84C
designator U?
XC5200 Series FPGA, 65 User I/Os, 84-Pin PLCC, Commercial Grade; Published: 17-Nov-2009; DatasheetVersion: ver5.2, Nov-1998; PackageVersion: ver1.2, Jun-2004; PackageReference: PC84; Publisher: Altium Limited; PackageDescription: 84-Pin Plastic Leaded Chip Carrier (PC84); Supplier 1: Digi-Key; Supplier Part Number 1: 122-1131-ND; Code_JEDEC: MS-047; Code_IPC: PLCC-84; ComponentLink1Description: XC5200 Datasheet; ComponentLink1URL: http://www.xilinx.com/support/documentation/data_sheets/5200.pdf; ComponentLink2Description: Pinout Specification; ComponentLink2URL: http://www.xilinx.com/support/documentation/data_sheets/5200.pdf; ComponentLink3Description: Discontinuation Notice; ComponentLink3URL: http://www.xilinx.com/support/documentation/customer_notices/xcn09001.pdf; ComponentLink4Description: PC84 Package Drawing; ComponentLink4URL: http://www.xilinx.com/support/documentation/package_specs/pc84.pdf; ComponentLink5Description: XC5200 Documents; ComponentLink5URL: http://www.xilinx.com/support/documentation/xc5200.htm; ComponentLink6Description: Xilinx.com Home; ComponentLink6URL: http://www.xilinx.com
footprint PC84_N (Leaded Chip Carrier, 84-Leads, Body 29.3x29.3mm, Pitch 1.27mm, IPC Medium Density)
footprint PC84_L (Leaded Chip Carrier, 84-Leads, Body 29.3x29.3mm, Pitch 1.27mm, IPC High Density)
footprint PC84_M (Leaded Chip Carrier, 84-Leads, Body 29.3x29.3mm, Pitch 1.27mm, IPC Low Density)
signal-integrity model XC5202_PC84 (XC5200)
part A pins: 3 A8 (io) "I/O (A8)", 4 A9 (io) "I/O (A9)", 5 A10 (io) "I/O (A10)", 6 A11 (io) "I/O (A11)", 7 A12 (io) "I/O (A12)", 8 A13 (io) "I/O (A13)", 9 A14 (io) "I/O (A14)", 10 A15 (io) "I/O (A15)", 13 GCK1, A16 (io) "GCK1 (A16, I/O)", 14 A17 (io) "I/O (A17)", 15 TDI (io) "I/O (TDI)", 16 TCK (io) "I/O (TCK)", 17 TMS (io) "I/O (TMS)", 30 M1 (io) "M1 (I/O)", 32 M0 (io) "M0 (I/O)", 34 M2 (io) "M2 (I/O)", 35 GCK2 (io) "GCK2 (I/O)", 36 HDC (io) "I/O (HDC)", 37 ~{LDC} (io) "I/O (LDC)", 41 ERR, ~{INIT} (io) "I/O (ERR, INIT)", 53 DONE (io), 55 ~{PROG} (in), 56 D7 (io) "I/O (D7)", 57 GCK3 (io) "GCK3 (I/O)", 58 D6 (io) "I/O (D6)", 59 D5 (io) "I/O (D5)", 60 ~{CS0} (io) "I/O (CS0)", 61 D4 (io) "I/O (D4)", 65 D3 (io) "I/O (D3)", 66 ~{RS} (io) "I/O (RS)", 67 D2 (io) "I/O (D2)", 69 D1 (io) "I/O (D1)", 70 ~{RCLK}-~{BUSY}/RDY (io) "I/O (RCLK-BUSY/RDY)", 71 D0, DIN (io) "I/O (D0, DIN)", 72 DOUT (io) "I/O (DOUT)", 73 CCLK (io), 75 TDO (hiz) "I/O (TDO)", 77 A0, ~{WS} (io) "I/O (A0, WS)", 78 GCK4, A1 (io) "GCK4 (A1, I/O)", 79 A2, CS1 (io) "I/O (A2, CS1)", 80 A3 (io) "I/O (A3)", 81 A4 (io) "I/O (A4)", 82 A5 (io) "I/O (A5)", 83 A6 (io) "I/O (A6)", 84 A7 (io) "I/O (A7)"
part B pins: 18 I/O (io), 19 I/O (io), 20 I/O (io), 23 I/O (io), 24 I/O (io), 25 I/O (io), 26 I/O (io), 27 I/O (io), 28 I/O (io), 29 I/O (io), 38 I/O (io), 39 I/O (io), 40 I/O (io), 44 I/O (io), 45 I/O (io), 46 I/O (io), 47 I/O (io), 48 I/O (io), 49 I/O (io), 50 I/O (io), 51 I/O (io), 62 I/O (io), 68 I/O (io)
part C pins: 2 VCC (power), 11 VCC (power), 22 VCC (power), 33 VCC (power), 42 VCC (power), 54 VCC (power), 63 VCC (power), 74 VCC (power)
part D pins: 1 GND (power), 12 GND (power), 21 GND (power), 31 GND (power), 43 GND (power), 52 GND (power), 64 GND (power), 76 GND (power)

## XC5202-6PC84I
designator U?
XC5200 Series FPGA, 65 User I/Os, 84-Pin PLCC, Industrial Grade; Published: 17-Nov-2009; DatasheetVersion: ver5.2, Nov-1998; PackageVersion: ver1.2, Jun-2004; PackageReference: PC84; Publisher: Altium Limited; PackageDescription: 84-Pin Plastic Leaded Chip Carrier (PC84); Code_JEDEC: MS-047; Code_IPC: PLCC-84; ComponentLink1Description: XC5200 Datasheet; ComponentLink1URL: http://www.xilinx.com/support/documentation/data_sheets/5200.pdf; ComponentLink2Description: Pinout Specification; ComponentLink2URL: http://www.xilinx.com/support/documentation/data_sheets/5200.pdf; ComponentLink3Description: Discontinuation Notice; ComponentLink3URL: http://www.xilinx.com/support/documentation/customer_notices/xcn09001.pdf; ComponentLink4Description: PC84 Package Drawing; ComponentLink4URL: http://www.xilinx.com/support/documentation/package_specs/pc84.pdf; ComponentLink5Description: XC5200 Documents; ComponentLink5URL: http://www.xilinx.com/support/documentation/xc5200.htm; ComponentLink6Description: Xilinx.com Home; ComponentLink6URL: http://www.xilinx.com
footprint PC84_N (Leaded Chip Carrier, 84-Leads, Body 29.3x29.3mm, Pitch 1.27mm, IPC Medium Density)
footprint PC84_L (Leaded Chip Carrier, 84-Leads, Body 29.3x29.3mm, Pitch 1.27mm, IPC High Density)
footprint PC84_M (Leaded Chip Carrier, 84-Leads, Body 29.3x29.3mm, Pitch 1.27mm, IPC Low Density)
signal-integrity model XC5202_PC84 (XC5200)
part A pins: 3 A8 (io) "I/O (A8)", 4 A9 (io) "I/O (A9)", 5 A10 (io) "I/O (A10)", 6 A11 (io) "I/O (A11)", 7 A12 (io) "I/O (A12)", 8 A13 (io) "I/O (A13)", 9 A14 (io) "I/O (A14)", 10 A15 (io) "I/O (A15)", 13 GCK1, A16 (io) "GCK1 (A16, I/O)", 14 A17 (io) "I/O (A17)", 15 TDI (io) "I/O (TDI)", 16 TCK (io) "I/O (TCK)", 17 TMS (io) "I/O (TMS)", 30 M1 (io) "M1 (I/O)", 32 M0 (io) "M0 (I/O)", 34 M2 (io) "M2 (I/O)", 35 GCK2 (io) "GCK2 (I/O)", 36 HDC (io) "I/O (HDC)", 37 ~{LDC} (io) "I/O (LDC)", 41 ERR, ~{INIT} (io) "I/O (ERR, INIT)", 53 DONE (io), 55 ~{PROG} (in), 56 D7 (io) "I/O (D7)", 57 GCK3 (io) "GCK3 (I/O)", 58 D6 (io) "I/O (D6)", 59 D5 (io) "I/O (D5)", 60 ~{CS0} (io) "I/O (CS0)", 61 D4 (io) "I/O (D4)", 65 D3 (io) "I/O (D3)", 66 ~{RS} (io) "I/O (RS)", 67 D2 (io) "I/O (D2)", 69 D1 (io) "I/O (D1)", 70 ~{RCLK}-~{BUSY}/RDY (io) "I/O (RCLK-BUSY/RDY)", 71 D0, DIN (io) "I/O (D0, DIN)", 72 DOUT (io) "I/O (DOUT)", 73 CCLK (io), 75 TDO (hiz) "I/O (TDO)", 77 A0, ~{WS} (io) "I/O (A0, WS)", 78 GCK4, A1 (io) "GCK4 (A1, I/O)", 79 A2, CS1 (io) "I/O (A2, CS1)", 80 A3 (io) "I/O (A3)", 81 A4 (io) "I/O (A4)", 82 A5 (io) "I/O (A5)", 83 A6 (io) "I/O (A6)", 84 A7 (io) "I/O (A7)"
part B pins: 18 I/O (io), 19 I/O (io), 20 I/O (io), 23 I/O (io), 24 I/O (io), 25 I/O (io), 26 I/O (io), 27 I/O (io), 28 I/O (io), 29 I/O (io), 38 I/O (io), 39 I/O (io), 40 I/O (io), 44 I/O (io), 45 I/O (io), 46 I/O (io), 47 I/O (io), 48 I/O (io), 49 I/O (io), 50 I/O (io), 51 I/O (io), 62 I/O (io), 68 I/O (io)
part C pins: 2 VCC (power), 11 VCC (power), 22 VCC (power), 33 VCC (power), 42 VCC (power), 54 VCC (power), 63 VCC (power), 74 VCC (power)
part D pins: 1 GND (power), 12 GND (power), 21 GND (power), 31 GND (power), 43 GND (power), 52 GND (power), 64 GND (power), 76 GND (power)

## XC5202-6PG156C
designator U?
XC5200 Series FPGA, 84 User I/Os, 156-Pin PGA, Commercial Grade; Published: 17-Nov-2009; DatasheetVersion: ver5.2, Nov-1998; PackageVersion: ver1.1, Apr-2001; PackageReference: PG156; Publisher: Altium Limited; PackageDescription: 156-Pin Ceramic Pin Grid Array (PG156); Code_JEDEC: MO-067-AH; ComponentLink1Description: XC5200 Datasheet; ComponentLink1URL: http://www.xilinx.com/support/documentation/data_sheets/5200.pdf; ComponentLink2Description: Pinout Specification; ComponentLink2URL: http://www.xilinx.com/support/documentation/data_sheets/5200.pdf; ComponentLink3Description: PG156 Package Drawing; ComponentLink3URL: http://www.xilinx.com/support/documentation/package_specs/pg156.pdf; ComponentLink4Description: XC5200 Documents; ComponentLink4URL: http://www.xilinx.com/support/documentation/xc5200.htm; ComponentLink5Description: Xilinx.com Home; ComponentLink5URL: http://www.xilinx.com
footprint PG156 (PGA, 156-Leads, Body 42x42mm, Pitch 2.54mm)
signal-integrity model XC5202_PG156 (XC5200)
part A pins: A1 A17 (io) "I/O (A17)", A3 TCK (io) "I/O (TCK)", A5 TMS (io) "I/O (TMS)", A15 M1 (io) "M1 (I/O)", A16 M0 (io) "M0 (I/O)", B1 A14 (io) "I/O (A14)", B2 A15 (io) "I/O (A15)", B3 GCK1, A16 (io) "GCK1 (A16, I/O)", B4 TDI (io) "I/O (TDI)", B15 M2 (io) "M2 (I/O)", B16 GCK2 (io) "GCK2 (I/O)", C1 A13 (io) "I/O (A13)", C16 ~{LDC} (io) "I/O (LDC)", D14 HDC (io) "I/O (HDC)", E3 A12 (io) "I/O (A12)", F1 A10 (io) "I/O (A10)", F2 A11 (io) "I/O (A11)", G1 A9 (io) "I/O (A9)", H1 A8 (io) "I/O (A8)", H15 ERR, ~{INIT} (io) "I/O (ERR, INIT)", J2 A6 (io) "I/O (A6)", J3 A7 (io) "I/O (A7)", K2 A5 (io) "I/O (A5)", K3 A4 (io) "I/O (A4)", N1 A3 (io) "I/O (A3)", P1 A2, CS1 (io) "I/O (A2, CS1)", P2 GCK4, A1 (io) "GCK4 (A1, I/O)", P4 D0, DIN (io) "I/O (D0, DIN)", P5 ~{RCLK}-~{BUSY}/RDY (io) "I/O (RCLK-BUSY/RDY)", P7 D2 (io) "I/O (D2)", P10 ~{CS0} (io) "I/O (CS0)", R1 A0, ~{WS} (io) "I/O (A0, WS)", R2 CCLK (io), R9 D4 (io) "I/O (D4)", R14 ~{PROG} (in), R15 DONE (io), T1 TDO (hiz) "I/O (TDO)", T2 DOUT (io) "I/O (DOUT)", T3 D1 (io) "I/O (D1)", T7 ~{RS} (io) "I/O (RS)", T8 D3 (io) "I/O (D3)", T10 D5 (io) "I/O (D5)", T14 D6 (io) "I/O (D6)", T15 GCK3 (io) "GCK3 (I/O)", T16 D7 (io) "I/O (D7)"
part B pins: A6 I/O (io), A7 I/O (io), A8 I/O (io), A9 I/O (io), A10 I/O (io), A13 I/O (io), B7 I/O (io), B9 I/O (io), B10 I/O (io), B12 I/O (io), B13 I/O (io), B14 I/O (io), C7 I/O (io), C9 I/O (io), C10 I/O (io), E14 I/O (io), F16 I/O (io), G2 I/O (io), G3 I/O (io), G14 I/O (io), G15 I/O (io), G16 I/O (io), H16 I/O (io), J1 I/O (io), J15 I/O (io), J16 I/O (io), K1 I/O (io), K14 I/O (io), K15 I/O (io), K16 I/O (io), L16 I/O (io), M14 I/O (io), N14 I/O (io), P9 I/O (io), P16 I/O (io), R7 I/O (io), R10 I/O (io), R16 I/O (io), T5 I/O (io), T6 I/O (io), T9 I/O (io), T13 I/O (io)
part C pins: B8 VCC (power), C3 VCC (power), C14 VCC (power), H3 VCC (power), H14 VCC (power), P3 VCC (power), P13 VCC (power), R8 VCC (power)
part D pins: C4 GND (power), C6 GND (power), C8 GND (power), C11 GND (power), C13 GND (power), F3 GND (power), F14 GND (power), H2 GND (power), J14 GND (power), L3 GND (power), L14 GND (power), N3 GND (power), P6 GND (power), P8 GND (power), P11 GND (power), P14 GND (power)
part E pins: A2 NC, A4 NC, A11 NC, A12 NC, A14 NC, B5 NC, B6 NC, B11 NC, C2 NC, C5 NC, C12 NC, C15 NC, D1 NC, D2 NC, D3 NC, D15 NC, D16 NC, E1 NC, E2 NC, E15 NC, E16 NC, F15 NC, L1 NC, L2 NC, L15 NC, M1 NC, M2 NC, M3 NC, M15 NC, M16 NC, N2 NC, N15 NC, N16 NC, P12 NC, P15 NC, R3 NC, R4 NC, R5 NC, R6 NC, R11 NC, R12 NC, R13 NC, T4 NC, T11 NC, T12 NC

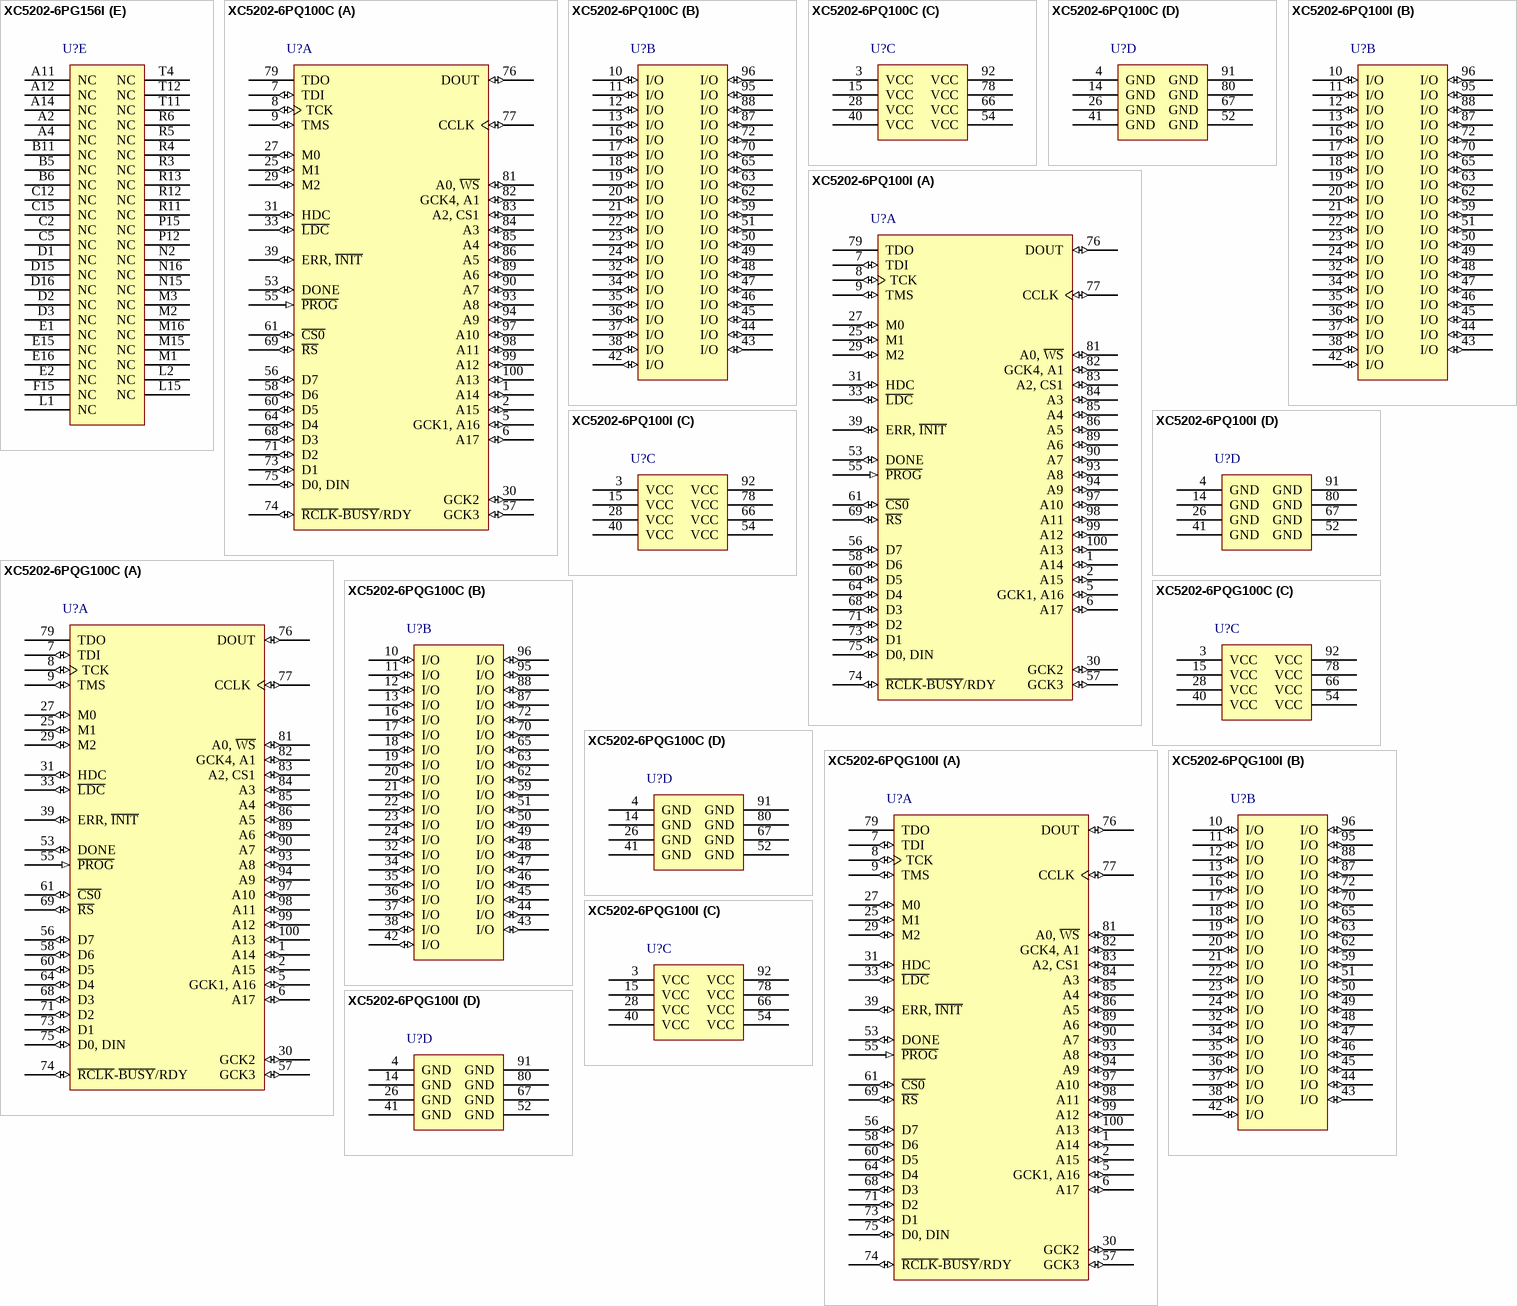
[diagram p6: symbols XC5202-6PG156I to XC5202-6PQG100I]

## XC5202-6PG156I
designator U?
XC5200 Series FPGA, 84 User I/Os, 156-Pin PGA, Industrial Grade; Published: 17-Nov-2009; DatasheetVersion: ver5.2, Nov-1998; PackageVersion: ver1.1, Apr-2001; PackageReference: PG156; Publisher: Altium Limited; PackageDescription: 156-Pin Ceramic Pin Grid Array (PG156); Code_JEDEC: MO-067-AH; ComponentLink1Description: XC5200 Datasheet; ComponentLink1URL: http://www.xilinx.com/support/documentation/data_sheets/5200.pdf; ComponentLink2Description: Pinout Specification; ComponentLink2URL: http://www.xilinx.com/support/documentation/data_sheets/5200.pdf; ComponentLink3Description: PG156 Package Drawing; ComponentLink3URL: http://www.xilinx.com/support/documentation/package_specs/pg156.pdf; ComponentLink4Description: XC5200 Documents; ComponentLink4URL: http://www.xilinx.com/support/documentation/xc5200.htm; ComponentLink5Description: Xilinx.com Home; ComponentLink5URL: http://www.xilinx.com
footprint PG156 (PGA, 156-Leads, Body 42x42mm, Pitch 2.54mm)
signal-integrity model XC5202_PG156 (XC5200)
part A pins: A1 A17 (io) "I/O (A17)", A3 TCK (io) "I/O (TCK)", A5 TMS (io) "I/O (TMS)", A15 M1 (io) "M1 (I/O)", A16 M0 (io) "M0 (I/O)", B1 A14 (io) "I/O (A14)", B2 A15 (io) "I/O (A15)", B3 GCK1, A16 (io) "GCK1 (A16, I/O)", B4 TDI (io) "I/O (TDI)", B15 M2 (io) "M2 (I/O)", B16 GCK2 (io) "GCK2 (I/O)", C1 A13 (io) "I/O (A13)", C16 ~{LDC} (io) "I/O (LDC)", D14 HDC (io) "I/O (HDC)", E3 A12 (io) "I/O (A12)", F1 A10 (io) "I/O (A10)", F2 A11 (io) "I/O (A11)", G1 A9 (io) "I/O (A9)", H1 A8 (io) "I/O (A8)", H15 ERR, ~{INIT} (io) "I/O (ERR, INIT)", J2 A6 (io) "I/O (A6)", J3 A7 (io) "I/O (A7)", K2 A5 (io) "I/O (A5)", K3 A4 (io) "I/O (A4)", N1 A3 (io) "I/O (A3)", P1 A2, CS1 (io) "I/O (A2, CS1)", P2 GCK4, A1 (io) "GCK4 (A1, I/O)", P4 D0, DIN (io) "I/O (D0, DIN)", P5 ~{RCLK}-~{BUSY}/RDY (io) "I/O (RCLK-BUSY/RDY)", P7 D2 (io) "I/O (D2)", P10 ~{CS0} (io) "I/O (CS0)", R1 A0, ~{WS} (io) "I/O (A0, WS)", R2 CCLK (io), R9 D4 (io) "I/O (D4)", R14 ~{PROG} (in), R15 DONE (io), T1 TDO (hiz) "I/O (TDO)", T2 DOUT (io) "I/O (DOUT)", T3 D1 (io) "I/O (D1)", T7 ~{RS} (io) "I/O (RS)", T8 D3 (io) "I/O (D3)", T10 D5 (io) "I/O (D5)", T14 D6 (io) "I/O (D6)", T15 GCK3 (io) "GCK3 (I/O)", T16 D7 (io) "I/O (D7)"
part B pins: A6 I/O (io), A7 I/O (io), A8 I/O (io), A9 I/O (io), A10 I/O (io), A13 I/O (io), B7 I/O (io), B9 I/O (io), B10 I/O (io), B12 I/O (io), B13 I/O (io), B14 I/O (io), C7 I/O (io), C9 I/O (io), C10 I/O (io), E14 I/O (io), F16 I/O (io), G2 I/O (io), G3 I/O (io), G14 I/O (io), G15 I/O (io), G16 I/O (io), H16 I/O (io), J1 I/O (io), J15 I/O (io), J16 I/O (io), K1 I/O (io), K14 I/O (io), K15 I/O (io), K16 I/O (io), L16 I/O (io), M14 I/O (io), N14 I/O (io), P9 I/O (io), P16 I/O (io), R7 I/O (io), R10 I/O (io), R16 I/O (io), T5 I/O (io), T6 I/O (io), T9 I/O (io), T13 I/O (io)
part C pins: B8 VCC (power), C3 VCC (power), C14 VCC (power), H3 VCC (power), H14 VCC (power), P3 VCC (power), P13 VCC (power), R8 VCC (power)
part D pins: C4 GND (power), C6 GND (power), C8 GND (power), C11 GND (power), C13 GND (power), F3 GND (power), F14 GND (power), H2 GND (power), J14 GND (power), L3 GND (power), L14 GND (power), N3 GND (power), P6 GND (power), P8 GND (power), P11 GND (power), P14 GND (power)
part E pins: A2 NC, A4 NC, A11 NC, A12 NC, A14 NC, B5 NC, B6 NC, B11 NC, C2 NC, C5 NC, C12 NC, C15 NC, D1 NC, D2 NC, D3 NC, D15 NC, D16 NC, E1 NC, E2 NC, E15 NC, E16 NC, F15 NC, L1 NC, L2 NC, L15 NC, M1 NC, M2 NC, M3 NC, M15 NC, M16 NC, N2 NC, N15 NC, N16 NC, P12 NC, P15 NC, R3 NC, R4 NC, R5 NC, R6 NC, R11 NC, R12 NC, R13 NC, T4 NC, T11 NC, T12 NC

## XC5202-6PQ100C
designator U?
XC5200 Series FPGA, 81 User I/Os, 100-Pin PQFP, Commercial Grade; Published: 17-Nov-2009; DatasheetVersion: ver5.2, Nov-1998; PackageVersion: ver1.2, Oct-2002; PackageReference: PQ100; Publisher: Altium Limited; PackageDescription: 100-Pin Plastic Quad Flat Pack (PQ100); Supplier 1: Digi-Key; Supplier Part Number 1: 122-1132-ND; Supplier 2: Farnell; Supplier Part Number 2: 3848966; Code_IPC: QFP65P1720X2320-100; ComponentLink1Description: XC5200 Datasheet; ComponentLink1URL: http://www.xilinx.com/support/documentation/data_sheets/5200.pdf; ComponentLink2Description: Pinout Specification; ComponentLink2URL: http://www.xilinx.com/support/documentation/data_sheets/5200.pdf; ComponentLink3Description: Discontinuation Notice; ComponentLink3URL: http://www.xilinx.com/support/documentation/customer_notices/xcn09001.pdf; ComponentLink4Description: PQ100 Package Drawing; ComponentLink4URL: http://www.xilinx.com/support/documentation/package_specs/pq100.pdf; ComponentLink5Description: XC5200 Documents; ComponentLink5URL: http://www.xilinx.com/support/documentation/xc5200.htm; ComponentLink6Description: Xilinx.com Home; ComponentLink6URL: http://www.xilinx.com
footprint PQ100_N (QFP, 100-Leads, Body 20x14mm, Pitch 0.65mm, IPC Medium Density)
footprint PQ100_L (QFP, 100-Leads, Body 20x14mm, Pitch 0.65mm, IPC High Density)
footprint PQ100_M (QFP, 100-Leads, Body 20x14mm, Pitch 0.65mm, IPC Low Density)
signal-integrity model XC5202_PQ100 (XC5200)
part A pins: 1 A14 (io) "I/O (A14)", 2 A15 (io) "I/O (A15)", 5 GCK1, A16 (io) "GCK1 (A16, I/O)", 6 A17 (io) "I/O (A17)", 7 TDI (io) "I/O (TDI)", 8 TCK (io) "I/O (TCK)", 9 TMS (io) "I/O (TMS)", 25 M1 (io) "M1 (I/O)", 27 M0 (io) "M0 (I/O)", 29 M2 (io) "M2 (I/O)", 30 GCK2 (io) "GCK2 (I/O)", 31 HDC (io) "I/O (HDC)", 33 ~{LDC} (io) "I/O (LDC)", 39 ERR, ~{INIT} (io) "I/O (ERR, INIT)", 53 DONE (io), 55 ~{PROG} (in), 56 D7 (io) "I/O (D7)", 57 GCK3 (io) "GCK3 (I/O)", 58 D6 (io) "I/O (D6)", 60 D5 (io) "I/O (D5)", 61 ~{CS0} (io) "I/O (CS0)", 64 D4 (io) "I/O (D4)", 68 D3 (io) "I/O (D3)", 69 ~{RS} (io) "I/O (RS)", 71 D2 (io) "I/O (D2)", 73 D1 (io) "I/O (D1)", 74 ~{RCLK}-~{BUSY}/RDY (io) "I/O (RCLK-BUSY/RDY)", 75 D0, DIN (io) "I/O (D0, DIN)", 76 DOUT (io) "I/O (DOUT)", 77 CCLK (io), 79 TDO (hiz) "I/O (TDO)", 81 A0, ~{WS} (io) "I/O (A0, WS)", 82 GCK4, A1 (io) "GCK4 (A1, I/O)", 83 A2, CS1 (io) "I/O (A2, CS1)", 84 A3 (io) "I/O (A3)", 85 A4 (io) "I/O (A4)", 86 A5 (io) "I/O (A5)", 89 A6 (io) "I/O (A6)", 90 A7 (io) "I/O (A7)", 93 A8 (io) "I/O (A8)", 94 A9 (io) "I/O (A9)", 97 A10 (io) "I/O (A10)", 98 A11 (io) "I/O (A11)", 99 A12 (io) "I/O (A12)", 100 A13 (io) "I/O (A13)"
part B pins: 10 I/O (io), 11 I/O (io), 12 I/O (io), 13 I/O (io), 16 I/O (io), 17 I/O (io), 18 I/O (io), 19 I/O (io), 20 I/O (io), 21 I/O (io), 22 I/O (io), 23 I/O (io), 24 I/O (io), 32 I/O (io), 34 I/O (io), 35 I/O (io), 36 I/O (io), 37 I/O (io), 38 I/O (io), 42 I/O (io), 43 I/O (io), 44 I/O (io), 45 I/O (io), 46 I/O (io), 47 I/O (io), 48 I/O (io), 49 I/O (io), 50 I/O (io), 51 I/O (io), 59 I/O (io), 62 I/O (io), 63 I/O (io), 65 I/O (io), 70 I/O (io), 72 I/O (io), 87 I/O (io), 88 I/O (io), 95 I/O (io), 96 I/O (io)
part C pins: 3 VCC (power), 15 VCC (power), 28 VCC (power), 40 VCC (power), 54 VCC (power), 66 VCC (power), 78 VCC (power), 92 VCC (power)
part D pins: 4 GND (power), 14 GND (power), 26 GND (power), 41 GND (power), 52 GND (power), 67 GND (power), 80 GND (power), 91 GND (power)

## XC5202-6PQ100I
designator U?
XC5200 Series FPGA, 81 User I/Os, 100-Pin PQFP, Industrial Grade; Published: 17-Nov-2009; DatasheetVersion: ver5.2, Nov-1998; PackageVersion: ver1.2, Oct-2002; PackageReference: PQ100; Publisher: Altium Limited; PackageDescription: 100-Pin Plastic Quad Flat Pack (PQ100); Code_IPC: QFP65P1720X2320-100; ComponentLink1Description: XC5200 Datasheet; ComponentLink1URL: http://www.xilinx.com/support/documentation/data_sheets/5200.pdf; ComponentLink2Description: Pinout Specification; ComponentLink2URL: http://www.xilinx.com/support/documentation/data_sheets/5200.pdf; ComponentLink3Description: Discontinuation Notice; ComponentLink3URL: http://www.xilinx.com/support/documentation/customer_notices/xcn09001.pdf; ComponentLink4Description: PQ100 Package Drawing; ComponentLink4URL: http://www.xilinx.com/support/documentation/package_specs/pq100.pdf; ComponentLink5Description: XC5200 Documents; ComponentLink5URL: http://www.xilinx.com/support/documentation/xc5200.htm; ComponentLink6Description: Xilinx.com Home; ComponentLink6URL: http://www.xilinx.com
footprint PQ100_N (QFP, 100-Leads, Body 20x14mm, Pitch 0.65mm, IPC Medium Density)
footprint PQ100_L (QFP, 100-Leads, Body 20x14mm, Pitch 0.65mm, IPC High Density)
footprint PQ100_M (QFP, 100-Leads, Body 20x14mm, Pitch 0.65mm, IPC Low Density)
signal-integrity model XC5202_PQ100 (XC5200)
part A pins: 1 A14 (io) "I/O (A14)", 2 A15 (io) "I/O (A15)", 5 GCK1, A16 (io) "GCK1 (A16, I/O)", 6 A17 (io) "I/O (A17)", 7 TDI (io) "I/O (TDI)", 8 TCK (io) "I/O (TCK)", 9 TMS (io) "I/O (TMS)", 25 M1 (io) "M1 (I/O)", 27 M0 (io) "M0 (I/O)", 29 M2 (io) "M2 (I/O)", 30 GCK2 (io) "GCK2 (I/O)", 31 HDC (io) "I/O (HDC)", 33 ~{LDC} (io) "I/O (LDC)", 39 ERR, ~{INIT} (io) "I/O (ERR, INIT)", 53 DONE (io), 55 ~{PROG} (in), 56 D7 (io) "I/O (D7)", 57 GCK3 (io) "GCK3 (I/O)", 58 D6 (io) "I/O (D6)", 60 D5 (io) "I/O (D5)", 61 ~{CS0} (io) "I/O (CS0)", 64 D4 (io) "I/O (D4)", 68 D3 (io) "I/O (D3)", 69 ~{RS} (io) "I/O (RS)", 71 D2 (io) "I/O (D2)", 73 D1 (io) "I/O (D1)", 74 ~{RCLK}-~{BUSY}/RDY (io) "I/O (RCLK-BUSY/RDY)", 75 D0, DIN (io) "I/O (D0, DIN)", 76 DOUT (io) "I/O (DOUT)", 77 CCLK (io), 79 TDO (hiz) "I/O (TDO)", 81 A0, ~{WS} (io) "I/O (A0, WS)", 82 GCK4, A1 (io) "GCK4 (A1, I/O)", 83 A2, CS1 (io) "I/O (A2, CS1)", 84 A3 (io) "I/O (A3)", 85 A4 (io) "I/O (A4)", 86 A5 (io) "I/O (A5)", 89 A6 (io) "I/O (A6)", 90 A7 (io) "I/O (A7)", 93 A8 (io) "I/O (A8)", 94 A9 (io) "I/O (A9)", 97 A10 (io) "I/O (A10)", 98 A11 (io) "I/O (A11)", 99 A12 (io) "I/O (A12)", 100 A13 (io) "I/O (A13)"
part B pins: 10 I/O (io), 11 I/O (io), 12 I/O (io), 13 I/O (io), 16 I/O (io), 17 I/O (io), 18 I/O (io), 19 I/O (io), 20 I/O (io), 21 I/O (io), 22 I/O (io), 23 I/O (io), 24 I/O (io), 32 I/O (io), 34 I/O (io), 35 I/O (io), 36 I/O (io), 37 I/O (io), 38 I/O (io), 42 I/O (io), 43 I/O (io), 44 I/O (io), 45 I/O (io), 46 I/O (io), 47 I/O (io), 48 I/O (io), 49 I/O (io), 50 I/O (io), 51 I/O (io), 59 I/O (io), 62 I/O (io), 63 I/O (io), 65 I/O (io), 70 I/O (io), 72 I/O (io), 87 I/O (io), 88 I/O (io), 95 I/O (io), 96 I/O (io)
part C pins: 3 VCC (power), 15 VCC (power), 28 VCC (power), 40 VCC (power), 54 VCC (power), 66 VCC (power), 78 VCC (power), 92 VCC (power)
part D pins: 4 GND (power), 14 GND (power), 26 GND (power), 41 GND (power), 52 GND (power), 67 GND (power), 80 GND (power), 91 GND (power)